# Altium integrated library Intel 1991-1992.IntLib: 71 symbols
Pins are listed as number, name and electrical type; pins without a type are passive.

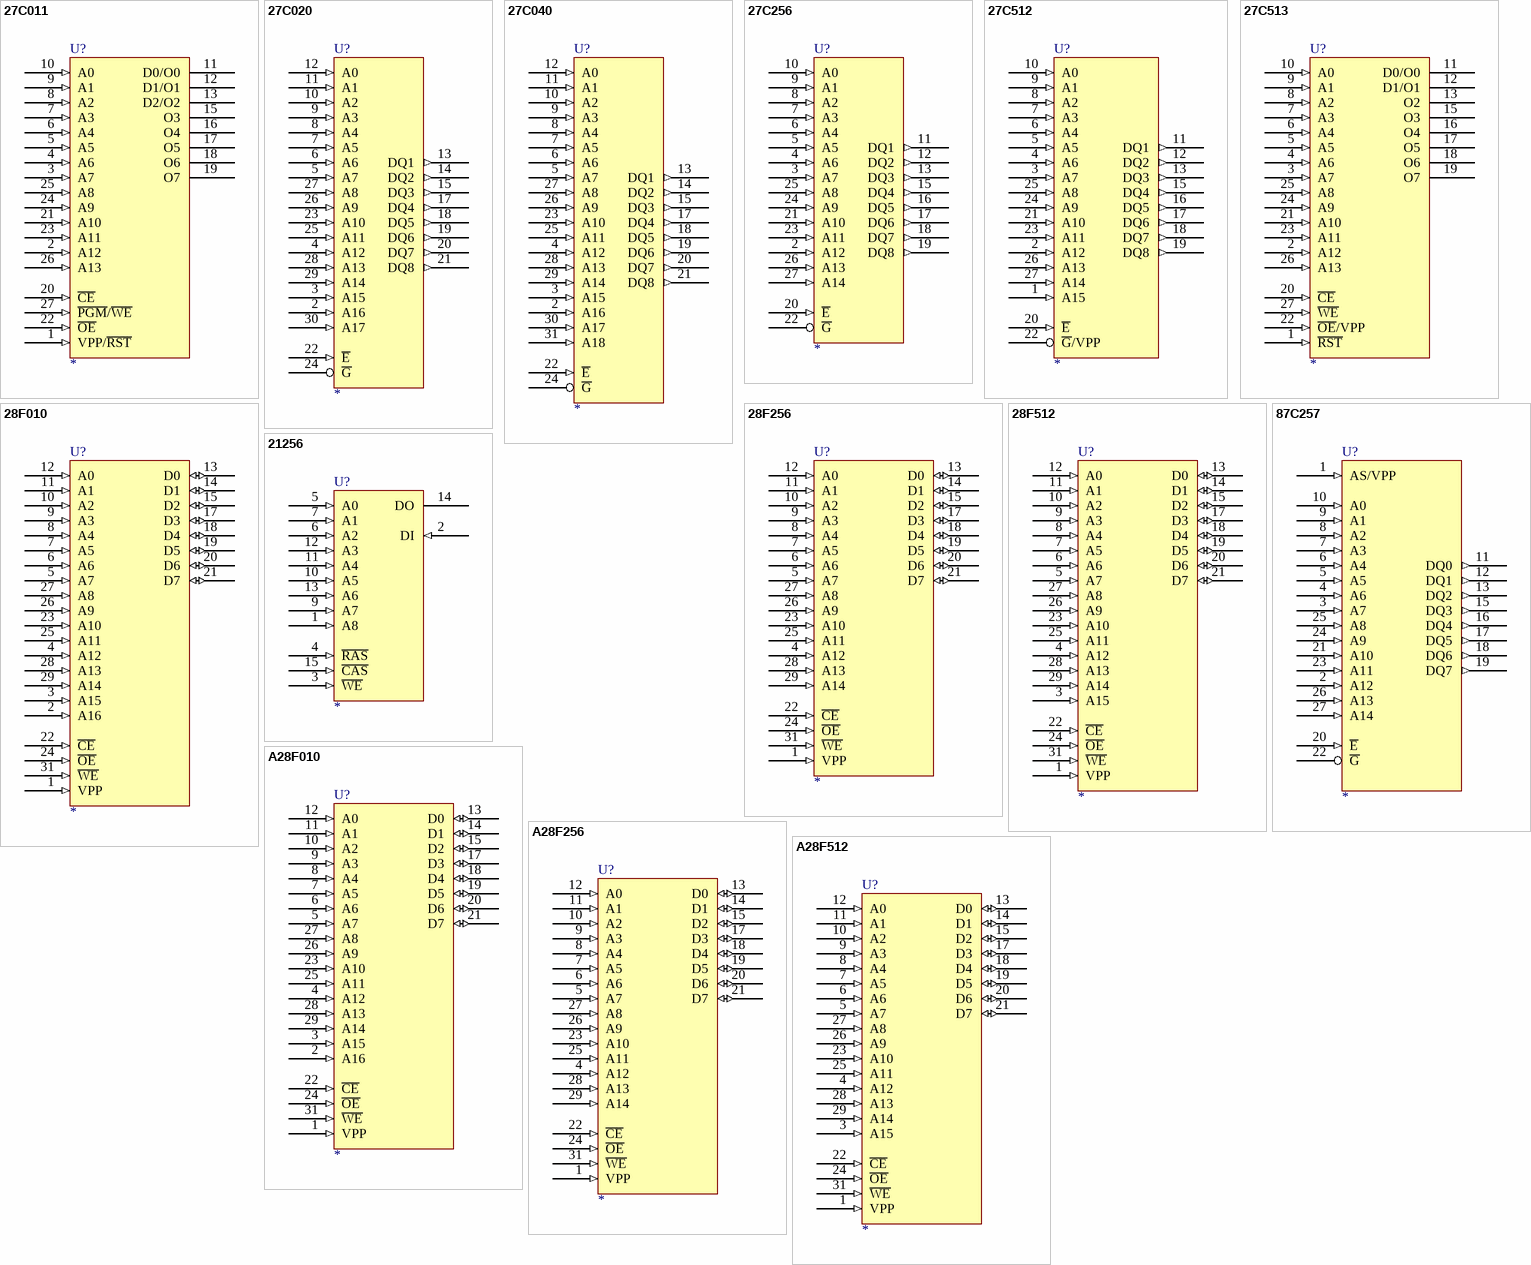
[diagram p0: symbols 27C011 to A28F512]

## 27C011
designator U?
pins: 1 VPP/~{RST} (in), 2 A12 (in), 3 A7 (in), 4 A6 (in), 5 A5 (in), 6 A4 (in), 7 A3 (in), 8 A2 (in), 9 A1 (in), 10 A0 (in), 11 D0/O0 (hiz), 12 D1/O1 (hiz), 13 D2/O2 (hiz), 14 GND (power) hidden to GND, 15 O3 (hiz), 16 O4 (hiz), 17 O5 (hiz), 18 O6 (hiz), 19 O7 (hiz), 20 ~{CE} (in), 21 A10 (in), 22 ~{OE} (in), 23 A11 (in), 24 A9 (in), 25 A8 (in), 26 A13 (in), 27 ~{PGM}/~{WE} (in), 28 VCC (power) hidden to VCC

## 27C020
designator U?
2 097 152-BIT UV ERASABLE PROGRAMMABLE READ-ONLY MEMORY
footprint DIP-32
pins: 1 VPP (power) hidden to VPP, 2 A16 (in), 3 A15 (in), 4 A12 (in), 5 A7 (in), 6 A6 (in), 7 A5 (in), 8 A4 (in), 9 A3 (in), 10 A2 (in), 11 A1 (in), 12 A0 (in), 13 DQ1 (out), 14 DQ2 (out), 15 DQ3 (out), 16 GND (power) hidden to GND, 17 DQ4 (out), 18 DQ5 (out), 19 DQ6 (out), 20 DQ7 (out), 21 DQ8 (out), 22 ~{E} (in), 23 A10 (in), 24 ~{G}, 25 A11 (in), 26 A9 (in), 27 A8 (in), 28 A13 (in), 29 A14 (in), 30 A17 (in), 32 VCC (power) hidden to VCC
1 alternate drawing of the same symbol

## 27C040
designator U?
4 194 304-BIT UV ERASABLE PROGRAMMABLE READ-ONLY MEMORY
footprint DIP-32
pins: 1 VPP (power) hidden to VPP, 2 A16 (in), 3 A15 (in), 4 A12 (in), 5 A7 (in), 6 A6 (in), 7 A5 (in), 8 A4 (in), 9 A3 (in), 10 A2 (in), 11 A1 (in), 12 A0 (in), 13 DQ1 (out), 14 DQ2 (out), 15 DQ3 (out), 16 GND (power) hidden to GND, 17 DQ4 (out), 18 DQ5 (out), 19 DQ6 (out), 20 DQ7 (out), 21 DQ8 (out), 22 ~{E} (in), 23 A10 (in), 24 ~{G}, 25 A11 (in), 26 A9 (in), 27 A8 (in), 28 A13 (in), 29 A14 (in), 30 A17 (in), 31 A18 (in), 32 VCC (power) hidden to VCC
1 alternate drawing of the same symbol

## 27C256
designator U?
262 144-BIT UV ERASABLE PROGRAMMABLE READ-ONLY MEMORY
footprint DIP-28
pins: 2 A12 (in), 3 A7 (in), 4 A6 (in), 5 A5 (in), 6 A4 (in), 7 A3 (in), 8 A2 (in), 9 A1 (in), 10 A0 (in), 11 DQ1 (out), 12 DQ2 (out), 13 DQ3 (out), 14 GND (power) hidden to GND, 15 DQ4 (out), 16 DQ5 (out), 17 DQ6 (out), 18 DQ7 (out), 19 DQ8 (out), 20 ~{E} (in), 21 A10 (in), 22 ~{G}, 23 A11 (in), 24 A9 (in), 25 A8 (in), 26 A13 (in), 27 A14 (in), 28 VCC (power) hidden to VCC
1 alternate drawing of the same symbol

## 27C512
designator U?
524 288-BIT ERASABLE UV PROGRAMMABLE READ-ONLY MEMORY
footprint DIP-28
pins: 1 A15 (in), 2 A12 (in), 3 A7 (in), 4 A6 (in), 5 A5 (in), 6 A4 (in), 7 A3 (in), 8 A2 (in), 9 A1 (in), 10 A0 (in), 11 DQ1 (out), 12 DQ2 (out), 13 DQ3 (out), 14 GND (power) hidden to GND, 15 DQ4 (out), 16 DQ5 (out), 17 DQ6 (out), 18 DQ7 (out), 19 DQ8 (out), 20 ~{E} (in), 21 A10 (in), 22 ~{G}/VPP, 23 A11 (in), 24 A9 (in), 25 A8 (in), 26 A13 (in), 27 A14 (in), 28 VCC (power) hidden to VCC
1 alternate drawing of the same symbol

## 27C513
designator U?
pins: 1 ~{RST} (in), 2 A12 (in), 3 A7 (in), 4 A6 (in), 5 A5 (in), 6 A4 (in), 7 A3 (in), 8 A2 (in), 9 A1 (in), 10 A0 (in), 11 D0/O0 (hiz), 12 D1/O1 (hiz), 13 O2 (hiz), 14 GND (power) hidden to GND, 15 O3 (hiz), 16 O4 (hiz), 17 O5 (hiz), 18 O6 (hiz), 19 O7 (hiz), 20 ~{CE} (in), 21 A10 (in), 22 ~{OE}/VPP (in), 23 A11 (in), 24 A9 (in), 25 A8 (in), 26 A13 (in), 27 ~{WE} (in), 28 VCC (power) hidden to VCC

## 28F010
designator U?
pins: 1 VPP (in), 2 A16 (in), 3 A15 (in), 4 A12 (in), 5 A7 (in), 6 A6 (in), 7 A5 (in), 8 A4 (in), 9 A3 (in), 10 A2 (in), 11 A1 (in), 12 A0 (in), 13 D0 (io), 14 D1 (io), 15 D2 (io), 16 GND (power) hidden to GND, 17 D3 (io), 18 D4 (io), 19 D5 (io), 20 D6 (io), 21 D7 (io), 22 ~{CE} (in), 23 A10 (in), 24 ~{OE} (in), 25 A11 (in), 26 A9 (in), 27 A8 (in), 28 A13 (in), 29 A14 (in), 31 ~{WE} (in), 32 VCC (power) hidden to VCC

## 28F256
designator U?
pins: 1 VPP (in), 4 A12 (in), 5 A7 (in), 6 A6 (in), 7 A5 (in), 8 A4 (in), 9 A3 (in), 10 A2 (in), 11 A1 (in), 12 A0 (in), 13 D0 (io), 14 D1 (io), 15 D2 (io), 16 VSS (power) hidden to VSS, 17 D3 (io), 18 D4 (io), 19 D5 (io), 20 D6 (io), 21 D7 (io), 22 ~{CE} (in), 23 A10 (in), 24 ~{OE} (in), 25 A11 (in), 26 A9 (in), 27 A8 (in), 28 A13 (in), 29 A14 (in), 31 ~{WE} (in), 32 VCC (power) hidden to VCC

## 28F512
designator U?
pins: 1 VPP (in), 3 A15 (in), 4 A12 (in), 5 A7 (in), 6 A6 (in), 7 A5 (in), 8 A4 (in), 9 A3 (in), 10 A2 (in), 11 A1 (in), 12 A0 (in), 13 D0 (io), 14 D1 (io), 15 D2 (io), 16 VSS (power) hidden to VSS, 17 D3 (io), 18 D4 (io), 19 D5 (io), 20 D6 (io), 21 D7 (io), 22 ~{CE} (in), 23 A10 (in), 24 ~{OE} (in), 25 A11 (in), 26 A9 (in), 27 A8 (in), 28 A13 (in), 29 A14 (in), 31 ~{WE} (in), 32 VCC (power) hidden to VCC

## 87C257
designator U?
262 144-BIT LATCHED UV ERASABLE PROGRAMMABLE READ-ONLY MEMORY
footprint DIP-28
pins: 1 AS/VPP (in), 2 A12 (in), 3 A7 (in), 4 A6 (in), 5 A5 (in), 6 A4 (in), 7 A3 (in), 8 A2 (in), 9 A1 (in), 10 A0 (in), 11 DQ0 (out), 12 DQ1 (out), 13 DQ2 (out), 14 GND (power) hidden to GND, 15 DQ3 (out), 16 DQ4 (out), 17 DQ5 (out), 18 DQ6 (out), 19 DQ7 (out), 20 ~{E} (in), 21 A10 (in), 22 ~{G}, 23 A11 (in), 24 A9 (in), 25 A8 (in), 26 A13 (in), 27 A14 (in), 28 VCC (power) hidden to VCC
1 alternate drawing of the same symbol

## 21256
designator U?
pins: 1 A8 (in), 2 DI (in), 3 ~{WE} (in), 4 ~{RAS} (in), 5 A0 (in), 6 A2 (in), 7 A1 (in), 8 VCC (power) hidden to VCC, 9 A7 (in), 10 A5 (in), 11 A4 (in), 12 A3 (in), 13 A6 (in), 14 DO (hiz), 15 ~{CAS} (in), 16 VSS (power) hidden to VSS

## A28F010
designator U?
pins: 1 VPP (in), 2 A16 (in), 3 A15 (in), 4 A12 (in), 5 A7 (in), 6 A6 (in), 7 A5 (in), 8 A4 (in), 9 A3 (in), 10 A2 (in), 11 A1 (in), 12 A0 (in), 13 D0 (io), 14 D1 (io), 15 D2 (io), 16 GND (power) hidden to GND, 17 D3 (io), 18 D4 (io), 19 D5 (io), 20 D6 (io), 21 D7 (io), 22 ~{CE} (in), 23 A10 (in), 24 ~{OE} (in), 25 A11 (in), 26 A9 (in), 27 A8 (in), 28 A13 (in), 29 A14 (in), 31 ~{WE} (in), 32 VCC (power) hidden to VCC

## A28F256
designator U?
pins: 1 VPP (in), 4 A12 (in), 5 A7 (in), 6 A6 (in), 7 A5 (in), 8 A4 (in), 9 A3 (in), 10 A2 (in), 11 A1 (in), 12 A0 (in), 13 D0 (io), 14 D1 (io), 15 D2 (io), 16 VSS (power) hidden to VSS, 17 D3 (io), 18 D4 (io), 19 D5 (io), 20 D6 (io), 21 D7 (io), 22 ~{CE} (in), 23 A10 (in), 24 ~{OE} (in), 25 A11 (in), 26 A9 (in), 27 A8 (in), 28 A13 (in), 29 A14 (in), 31 ~{WE} (in), 32 VCC (power) hidden to VCC

## A28F512
designator U?
pins: 1 VPP (in), 3 A15 (in), 4 A12 (in), 5 A7 (in), 6 A6 (in), 7 A5 (in), 8 A4 (in), 9 A3 (in), 10 A2 (in), 11 A1 (in), 12 A0 (in), 13 D0 (io), 14 D1 (io), 15 D2 (io), 16 VSS (power) hidden to VSS, 17 D3 (io), 18 D4 (io), 19 D5 (io), 20 D6 (io), 21 D7 (io), 22 ~{CE} (in), 23 A10 (in), 24 ~{OE} (in), 25 A11 (in), 26 A9 (in), 27 A8 (in), 28 A13 (in), 29 A14 (in), 31 ~{WE} (in), 32 VCC (power) hidden to VCC


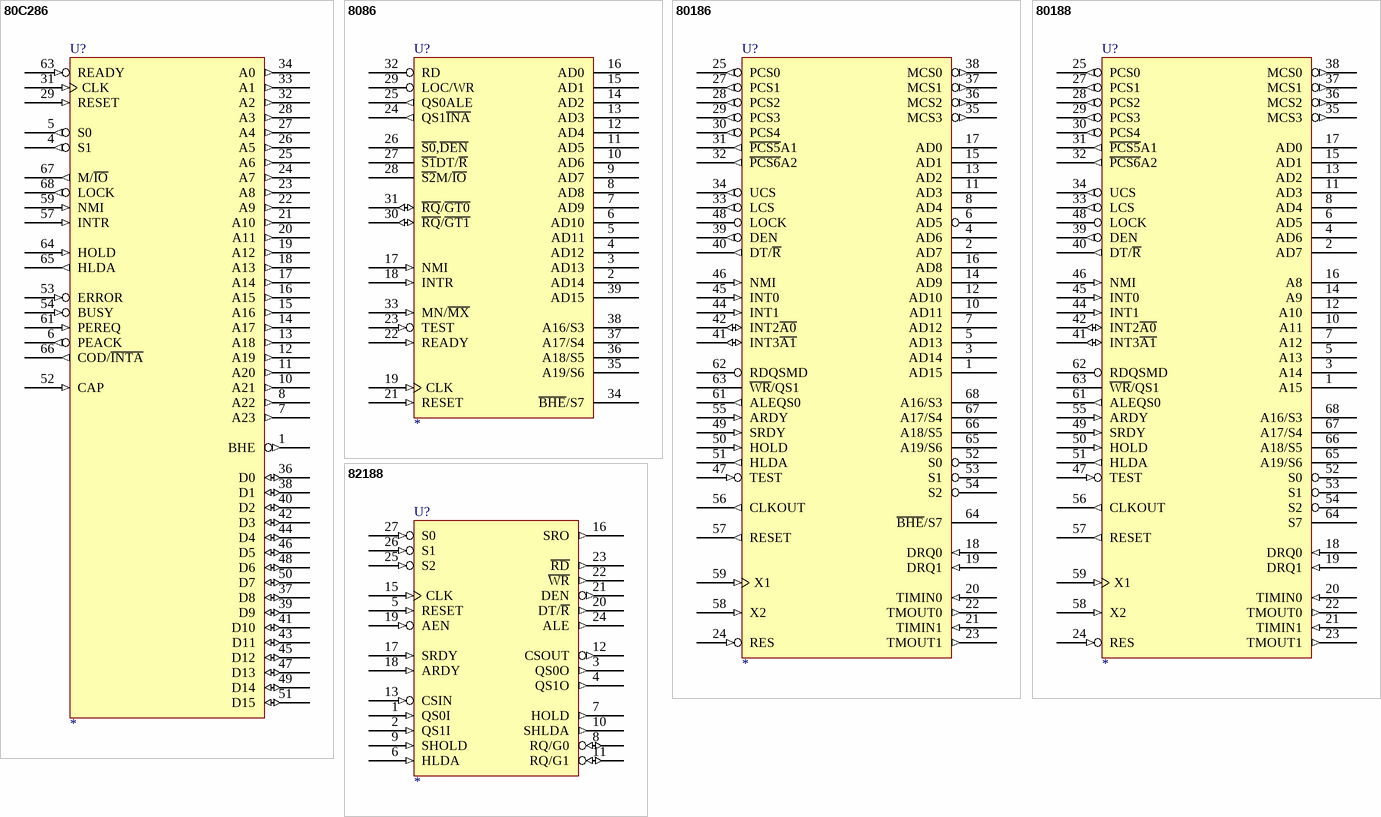
[diagram p1: symbols 80C286 to 82188]

## 80C286
designator U?
pins: 1 BHE (out), 4 S1 (out), 5 S0 (out), 6 PEACK (out), 7 A23 (out), 8 A22 (out), 9 VSS (power) hidden to VSS, 10 A21 (out), 11 A20 (out), 12 A19 (out), 13 A18 (out), 14 A17 (out), 15 A16 (out), 16 A15 (out), 17 A14 (out), 18 A13 (out), 19 A12 (out), 20 A11 (out), 21 A10 (out), 22 A9 (out), 23 A8 (out), 24 A7 (out), 25 A6 (out), 26 A5 (out), 27 A4 (out), 28 A3 (out), 29 RESET (in), 30 VCC (power) hidden to VCC, 31 CLK (in), 32 A2 (out), 33 A1 (out), 34 A0 (out), 35 VSS (power) hidden to VSS, 36 D0 (io), 37 D8 (io), 38 D1 (io), 39 D9 (io), 40 D2 (io), 41 D10 (io), 42 D3 (io), 43 D11 (io), 44 D4 (io), 45 D12 (io), 46 D5 (io), 47 D13 (io), 48 D6 (io), 49 D14 (io), 50 D7 (io), 51 D15 (io), 52 CAP (in), 53 ERROR (in), 54 BUSY (in), 57 INTR (in), 59 NMI (in), 60 VSS (power) hidden to VSS, 61 PEREQ (in), 62 VCC (power) hidden to VCC, 63 READY (in), 64 HOLD (in), 65 HLDA (out), 66 COD/~{INTA} (out), 67 M/~{IO} (out), 68 LOCK (out)

## 8086
designator U?
footprint DIP-40
pins: 1 GND (power) hidden to GND, 2 AD14 (hiz), 3 AD13 (hiz), 4 AD12 (hiz), 5 AD11 (hiz), 6 AD10 (hiz), 7 AD9 (hiz), 8 AD8 (hiz), 9 AD7 (hiz), 10 AD6 (hiz), 11 AD5 (hiz), 12 AD4 (hiz), 13 AD3 (hiz), 14 AD2 (hiz), 15 AD1 (hiz), 16 AD0 (hiz), 17 NMI (in), 18 INTR (in), 19 CLK (in), 20 GND (power) hidden to GND, 21 RESET (in), 22 READY (in), 23 TEST (in), 24 QS1~{INA} (out), 25 QS0ALE (out), 26 ~{S0},~{DEN} (hiz), 27 ~{S1}DT/~{R} (hiz), 28 ~{S2}M/~{IO} (hiz), 29 LOC/WR (hiz), 30 ~{RQ}/~{GT1} (io), 31 ~{RQ}/~{GT0} (io), 32 RD (hiz), 33 MN/~{MX} (in), 34 ~{BHE}/S7 (hiz), 35 A19/S6 (hiz), 36 A18/S5 (hiz), 37 A17/S4 (hiz), 38 A16/S3 (hiz), 39 AD15 (hiz), 40 VCC (power) hidden to VCC

## 80186
designator U?
footprint JEDECA-68
pins: 1 AD15 (hiz), 2 AD7 (hiz), 3 AD14 (hiz), 4 AD6 (hiz), 5 AD13 (hiz), 6 AD5 (hiz), 7 AD12 (hiz), 8 AD4 (hiz), 9 VCC (power) hidden to VCC, 10 AD11 (hiz), 11 AD3 (hiz), 12 AD10 (hiz), 13 AD2 (hiz), 14 AD9 (hiz), 15 AD1 (hiz), 16 AD8 (hiz), 17 AD0 (hiz), 18 DRQ0 (in), 19 DRQ1 (in), 20 TIMIN0 (in), 21 TIMIN1 (in), 22 TMOUT0 (out), 23 TMOUT1 (out), 24 RES (in), 25 PCS0 (out), 26 GND (power) hidden to GND, 27 PCS1 (out), 28 PCS2 (out), 29 PCS3 (out), 30 PCS4 (out), 31 ~{PCS5}A1 (out), 32 ~{PCS6}A2 (out), 33 LCS (out), 34 UCS (out), 35 MCS3 (out), 36 MCS2 (out), 37 MCS1 (out), 38 MCS0 (out), 39 DEN (out), 40 DT/~{R} (out), 41 INT3~{A1} (io), 42 INT2~{A0} (io), 43 VCC (power) hidden to VCC, 44 INT1 (in), 45 INT0 (in), 46 NMI (in), 47 TEST (in), 48 LOCK (hiz), 49 SRDY (in), 50 HOLD (in), 51 HLDA (out), 52 S0 (hiz), 53 S1 (hiz), 54 S2 (hiz), 55 ARDY (in), 56 CLKOUT (out), 57 RESET (out), 58 X2 (in), 59 X1 (in), 60 GND (power) hidden to GND, 61 ALEQS0 (out), 62 RDQSMD (hiz), 63 ~{WR}/QS1 (hiz), 64 ~{BHE}/S7 (hiz), 65 A19/S6 (hiz), 66 A18/S5 (hiz), 67 A17/S4 (hiz), 68 A16/S3 (hiz)

## 80188
designator U?
footprint JEDECA-68
pins: 1 A15 (hiz), 2 AD7 (hiz), 3 A14 (hiz), 4 AD6 (hiz), 5 A13 (hiz), 6 AD5 (hiz), 7 A12 (hiz), 8 AD4 (hiz), 9 VCC (power) hidden to VCC, 10 A11 (hiz), 11 AD3 (hiz), 12 A10 (hiz), 13 AD2 (hiz), 14 A9 (hiz), 15 AD1 (hiz), 16 A8 (hiz), 17 AD0 (hiz), 18 DRQ0 (in), 19 DRQ1 (in), 20 TIMIN0 (in), 21 TIMIN1 (in), 22 TMOUT0 (out), 23 TMOUT1 (out), 24 RES (in), 25 PCS0 (out), 26 GND (power) hidden to GND, 27 PCS1 (out), 28 PCS2 (out), 29 PCS3 (out), 30 PCS4 (out), 31 ~{PCS5}A1 (out), 32 ~{PCS6}A2 (out), 33 LCS (out), 34 UCS (out), 35 MCS3 (out), 36 MCS2 (out), 37 MCS1 (out), 38 MCS0 (out), 39 DEN (out), 40 DT/~{R} (out), 41 INT3~{A1} (io), 42 INT2~{A0} (io), 43 VCC (power) hidden to VCC, 44 INT1 (in), 45 INT0 (in), 46 NMI (in), 47 TEST (in), 48 LOCK (hiz), 49 SRDY (in), 50 HOLD (in), 51 HLDA (out), 52 S0 (hiz), 53 S1 (hiz), 54 S2 (hiz), 55 ARDY (in), 56 CLKOUT (out), 57 RESET (out), 58 X2 (in), 59 X1 (in), 60 GND (power) hidden to GND, 61 ALEQS0 (out), 62 RDQSMD (hiz), 63 ~{WR}/QS1 (hiz), 64 S7 (hiz), 65 A19/S6 (hiz), 66 A18/S5 (hiz), 67 A17/S4 (hiz), 68 A16/S3 (hiz)

## 82188
designator U?
pins: 1 QS0I (in), 2 QS1I (in), 3 QS0O (out), 4 QS1O (out), 5 RESET (in), 6 HLDA (in), 7 HOLD (out), 8 RQ/G0 (io), 9 SHOLD (in), 10 SHLDA (out), 11 RQ/G1 (io), 12 CSOUT (out), 13 CSIN (in), 14 VSS (power) hidden to VSS, 15 CLK (in), 16 SRO (out), 17 SRDY (in), 18 ARDY (in), 19 AEN (in), 20 DT/~{R} (out), 21 DEN (out), 22 ~{WR} (out), 23 ~{RD} (out), 24 ALE (out), 25 S2 (in), 26 S1 (in), 27 S0 (in), 28 VCC (power) hidden to VCC


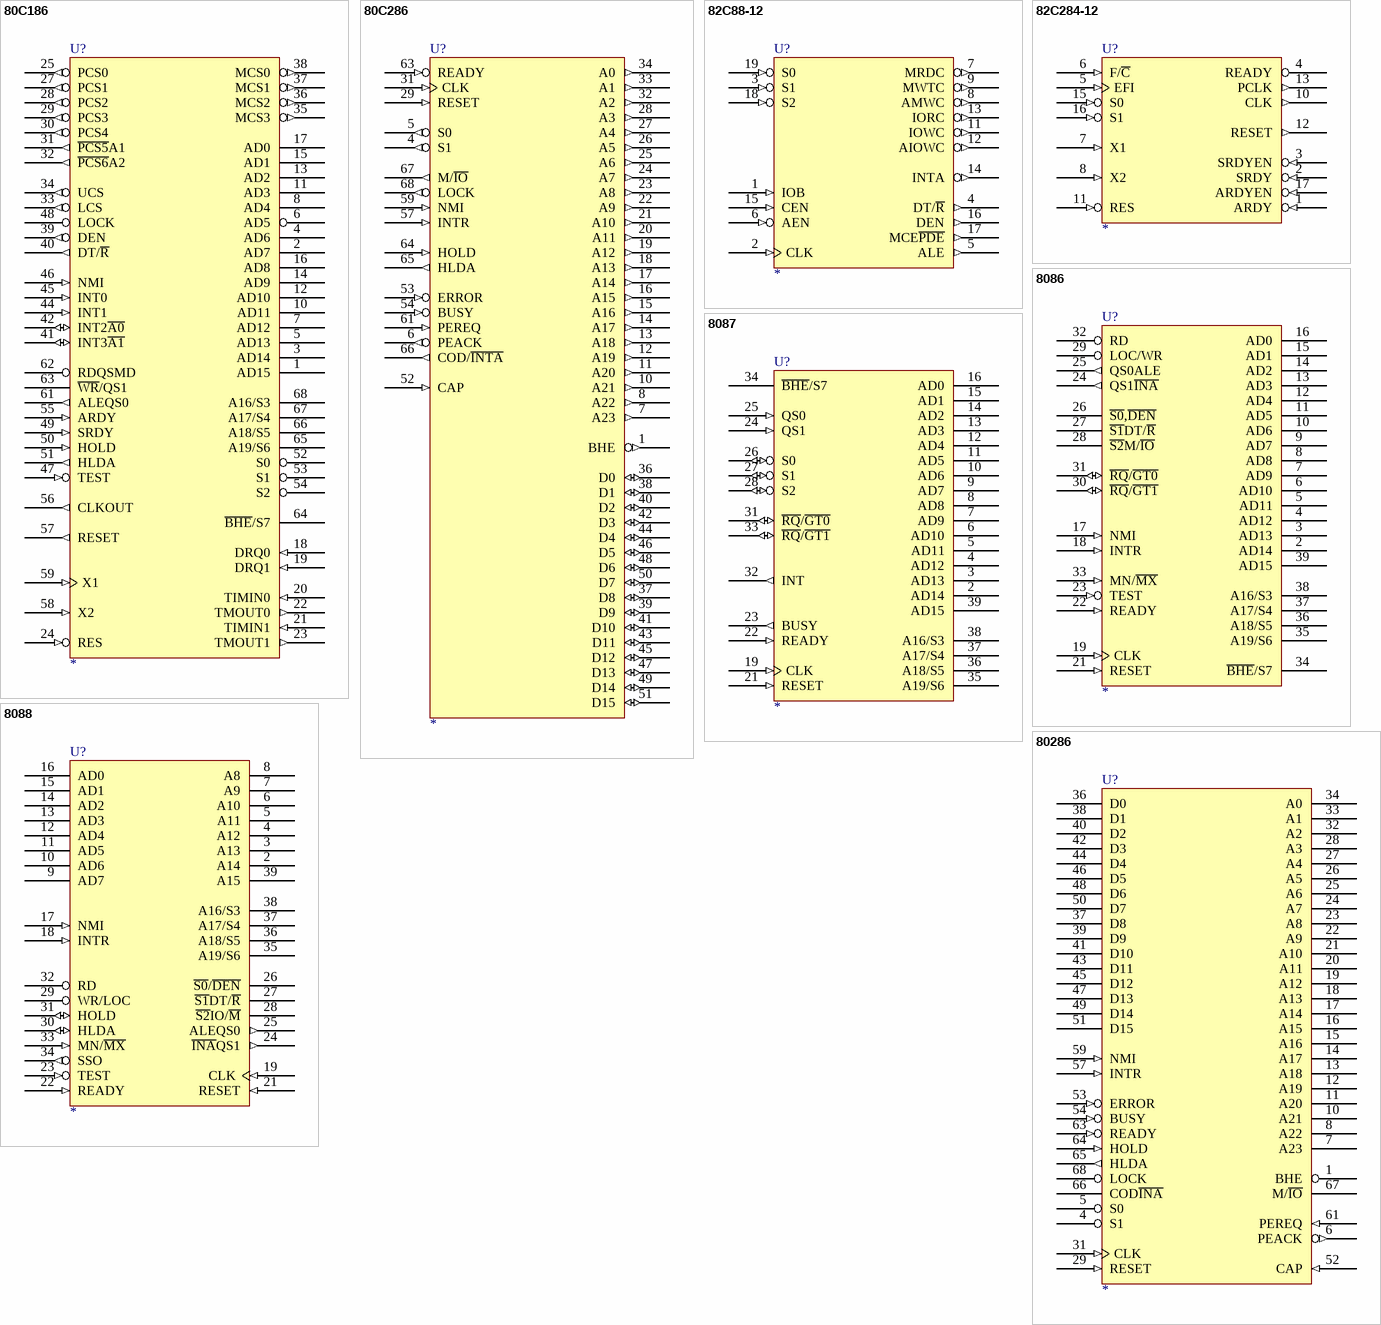
[diagram p2: symbols 80C186 to 80286]

## 80C186
designator U?
footprint JEDECA-68
pins: 1 AD15 (hiz), 2 AD7 (hiz), 3 AD14 (hiz), 4 AD6 (hiz), 5 AD13 (hiz), 6 AD5 (hiz), 7 AD12 (hiz), 8 AD4 (hiz), 9 VCC (power) hidden to VCC, 10 AD11 (hiz), 11 AD3 (hiz), 12 AD10 (hiz), 13 AD2 (hiz), 14 AD9 (hiz), 15 AD1 (hiz), 16 AD8 (hiz), 17 AD0 (hiz), 18 DRQ0 (in), 19 DRQ1 (in), 20 TIMIN0 (in), 21 TIMIN1 (in), 22 TMOUT0 (out), 23 TMOUT1 (out), 24 RES (in), 25 PCS0 (out), 26 GND (power) hidden to GND, 27 PCS1 (out), 28 PCS2 (out), 29 PCS3 (out), 30 PCS4 (out), 31 ~{PCS5}A1 (out), 32 ~{PCS6}A2 (out), 33 LCS (out), 34 UCS (out), 35 MCS3 (out), 36 MCS2 (out), 37 MCS1 (out), 38 MCS0 (out), 39 DEN (out), 40 DT/~{R} (out), 41 INT3~{A1} (io), 42 INT2~{A0} (io), 43 VCC (power) hidden to VCC, 44 INT1 (in), 45 INT0 (in), 46 NMI (in), 47 TEST (in), 48 LOCK (hiz), 49 SRDY (in), 50 HOLD (in), 51 HLDA (out), 52 S0 (hiz), 53 S1 (hiz), 54 S2 (hiz), 55 ARDY (in), 56 CLKOUT (out), 57 RESET (out), 58 X2 (in), 59 X1 (in), 60 GND (power) hidden to GND, 61 ALEQS0 (out), 62 RDQSMD (hiz), 63 ~{WR}/QS1 (hiz), 64 ~{BHE}/S7 (hiz), 65 A19/S6 (hiz), 66 A18/S5 (hiz), 67 A17/S4 (hiz), 68 A16/S3 (hiz)

## 80C286
designator U?
pins: 1 BHE (out), 4 S1 (out), 5 S0 (out), 6 PEACK (out), 7 A23 (out), 8 A22 (out), 9 VSS (power) hidden to VSS, 10 A21 (out), 11 A20 (out), 12 A19 (out), 13 A18 (out), 14 A17 (out), 15 A16 (out), 16 A15 (out), 17 A14 (out), 18 A13 (out), 19 A12 (out), 20 A11 (out), 21 A10 (out), 22 A9 (out), 23 A8 (out), 24 A7 (out), 25 A6 (out), 26 A5 (out), 27 A4 (out), 28 A3 (out), 29 RESET (in), 30 VCC (power) hidden to VCC, 31 CLK (in), 32 A2 (out), 33 A1 (out), 34 A0 (out), 35 VSS (power) hidden to VSS, 36 D0 (io), 37 D8 (io), 38 D1 (io), 39 D9 (io), 40 D2 (io), 41 D10 (io), 42 D3 (io), 43 D11 (io), 44 D4 (io), 45 D12 (io), 46 D5 (io), 47 D13 (io), 48 D6 (io), 49 D14 (io), 50 D7 (io), 51 D15 (io), 52 CAP (in), 53 ERROR (in), 54 BUSY (in), 57 INTR (in), 59 NMI (in), 60 VSS (power) hidden to VSS, 61 PEREQ (in), 62 VCC (power) hidden to VCC, 63 READY (in), 64 HOLD (in), 65 HLDA (out), 66 COD/~{INTA} (out), 67 M/~{IO} (out), 68 LOCK (out)

## 82C88-12
designator U?
footprint DIP-20
pins: 1 IOB (in), 2 CLK (in), 3 S1 (in), 4 DT/~{R} (out), 5 ALE (out), 6 AEN (in), 7 MRDC (out), 8 AMWC (out), 9 MWTC (out), 10 GND (power) hidden to GND, 11 IOWC (out), 12 AIOWC (out), 13 IORC (out), 14 INTA (out), 15 CEN (in), 16 DEN (out), 17 MCE~{PDE} (out), 18 S2 (in), 19 S0 (in), 20 VCC (power) hidden to VCC

## 82C284-12
designator U?
footprint DIP-18
pins: 1 ARDY (in), 2 SRDY (in), 3 SRDYEN (in), 4 READY (oc), 5 EFI (in), 6 F/~{C} (in), 7 X1 (in), 8 X2 (in), 9 GND (power) hidden to GND, 10 CLK (out), 11 RES (in), 12 RESET (out), 13 PCLK (out), 15 S0 (in), 16 S1 (in), 17 ARDYEN (in), 18 VCC (power) hidden to VCC

## 8086
designator U?
footprint DIP-40
pins: 1 GND (power) hidden to GND, 2 AD14 (hiz), 3 AD13 (hiz), 4 AD12 (hiz), 5 AD11 (hiz), 6 AD10 (hiz), 7 AD9 (hiz), 8 AD8 (hiz), 9 AD7 (hiz), 10 AD6 (hiz), 11 AD5 (hiz), 12 AD4 (hiz), 13 AD3 (hiz), 14 AD2 (hiz), 15 AD1 (hiz), 16 AD0 (hiz), 17 NMI (in), 18 INTR (in), 19 CLK (in), 20 GND (power) hidden to GND, 21 RESET (in), 22 READY (in), 23 TEST (in), 24 QS1~{INA} (out), 25 QS0ALE (out), 26 ~{S0},~{DEN} (hiz), 27 ~{S1}DT/~{R} (hiz), 28 ~{S2}M/~{IO} (hiz), 29 LOC/WR (hiz), 30 ~{RQ}/~{GT1} (io), 31 ~{RQ}/~{GT0} (io), 32 RD (hiz), 33 MN/~{MX} (in), 34 ~{BHE}/S7 (hiz), 35 A19/S6 (hiz), 36 A18/S5 (hiz), 37 A17/S4 (hiz), 38 A16/S3 (hiz), 39 AD15 (hiz), 40 VCC (power) hidden to VCC

## 8087
designator U?
footprint DIP-40
pins: 1 GND (power) hidden to GND, 2 AD14 (hiz), 3 AD13 (hiz), 4 AD12 (hiz), 5 AD11 (hiz), 6 AD10 (hiz), 7 AD9 (hiz), 8 AD8 (hiz), 9 AD7 (hiz), 10 AD6 (hiz), 11 AD5 (hiz), 12 AD4 (hiz), 13 AD3 (hiz), 14 AD2 (hiz), 15 AD1 (hiz), 16 AD0 (hiz), 19 CLK (in), 20 GND (power) hidden to GND, 21 RESET (in), 22 READY (in), 23 BUSY (out), 24 QS1 (in), 25 QS0 (in), 26 S0 (io), 27 S1 (io), 28 S2 (io), 31 ~{RQ}/~{GT0} (io), 32 INT (out), 33 ~{RQ}/~{GT1} (io), 34 ~{BHE}/S7 (hiz), 35 A19/S6 (hiz), 36 A18/S5 (hiz), 37 A17/S4 (hiz), 38 A16/S3 (hiz), 39 AD15 (hiz), 40 VCC (power) hidden to VCC

## 8088
designator U?
footprint DIP-40
pins: 1 GND (power) hidden to GND, 2 A14 (hiz), 3 A13 (hiz), 4 A12 (hiz), 5 A11 (hiz), 6 A10 (hiz), 7 A9 (hiz), 8 A8 (hiz), 9 AD7 (hiz), 10 AD6 (hiz), 11 AD5 (hiz), 12 AD4 (hiz), 13 AD3 (hiz), 14 AD2 (hiz), 15 AD1 (hiz), 16 AD0 (hiz), 17 NMI (in), 18 INTR (in), 19 CLK (in), 20 GND (power) hidden to GND, 21 RESET (in), 22 READY (in), 23 TEST (in), 24 ~{INA}QS1 (out), 25 ALEQS0 (out), 26 ~{S0}/~{DEN} (hiz), 27 ~{S1}DT/~{R} (hiz), 28 ~{S2}IO/~{M} (hiz), 29 WR/LOC (hiz), 30 HLDA (io), 31 HOLD (io), 32 RD (hiz), 33 MN/~{MX} (in), 34 SSO (out), 35 A19/S6 (hiz), 36 A18/S5 (hiz), 37 A17/S4 (hiz), 38 A16/S3 (hiz), 39 A15 (hiz), 40 VCC (power) hidden to VCC

## 80286
designator U?
footprint JEDECA-68
pins: 1 BHE (hiz), 4 S1 (hiz), 5 S0 (hiz), 6 PEACK (out), 7 A23 (hiz), 8 A22 (hiz), 9 GND (power) hidden to GND, 10 A21 (hiz), 11 A20 (hiz), 12 A19 (hiz), 13 A18 (hiz), 14 A17 (hiz), 15 A16 (hiz), 16 A15 (hiz), 17 A14 (hiz), 18 A13 (hiz), 19 A12 (hiz), 20 A11 (hiz), 21 A10 (hiz), 22 A9 (hiz), 23 A8 (hiz), 24 A7 (hiz), 25 A6 (hiz), 26 A5 (hiz), 27 A4 (hiz), 28 A3 (hiz), 29 RESET (in), 30 VCC (power) hidden to VCC, 31 CLK (in), 32 A2 (hiz), 33 A1 (hiz), 34 A0 (hiz), 35 GND (power) hidden to GND, 36 D0 (hiz), 37 D8 (hiz), 38 D1 (hiz), 39 D9 (hiz), 40 D2 (hiz), 41 D10 (hiz), 42 D3 (hiz), 43 D11 (hiz), 44 D4 (hiz), 45 D12 (hiz), 46 D5 (hiz), 47 D13 (hiz), 48 D6 (hiz), 49 D14 (hiz), 50 D7 (hiz), 51 D15 (hiz), 52 CAP (in), 53 ERROR (in), 54 BUSY (in), 57 INTR (in), 59 NMI (in), 60 GND (power) hidden to GND, 61 PEREQ (in), 62 VCC (power) hidden to VCC, 63 READY (in), 64 HOLD (in), 65 HLDA (out), 66 COD~{INA} (hiz), 67 M/~{IO} (hiz), 68 LOCK (hiz)


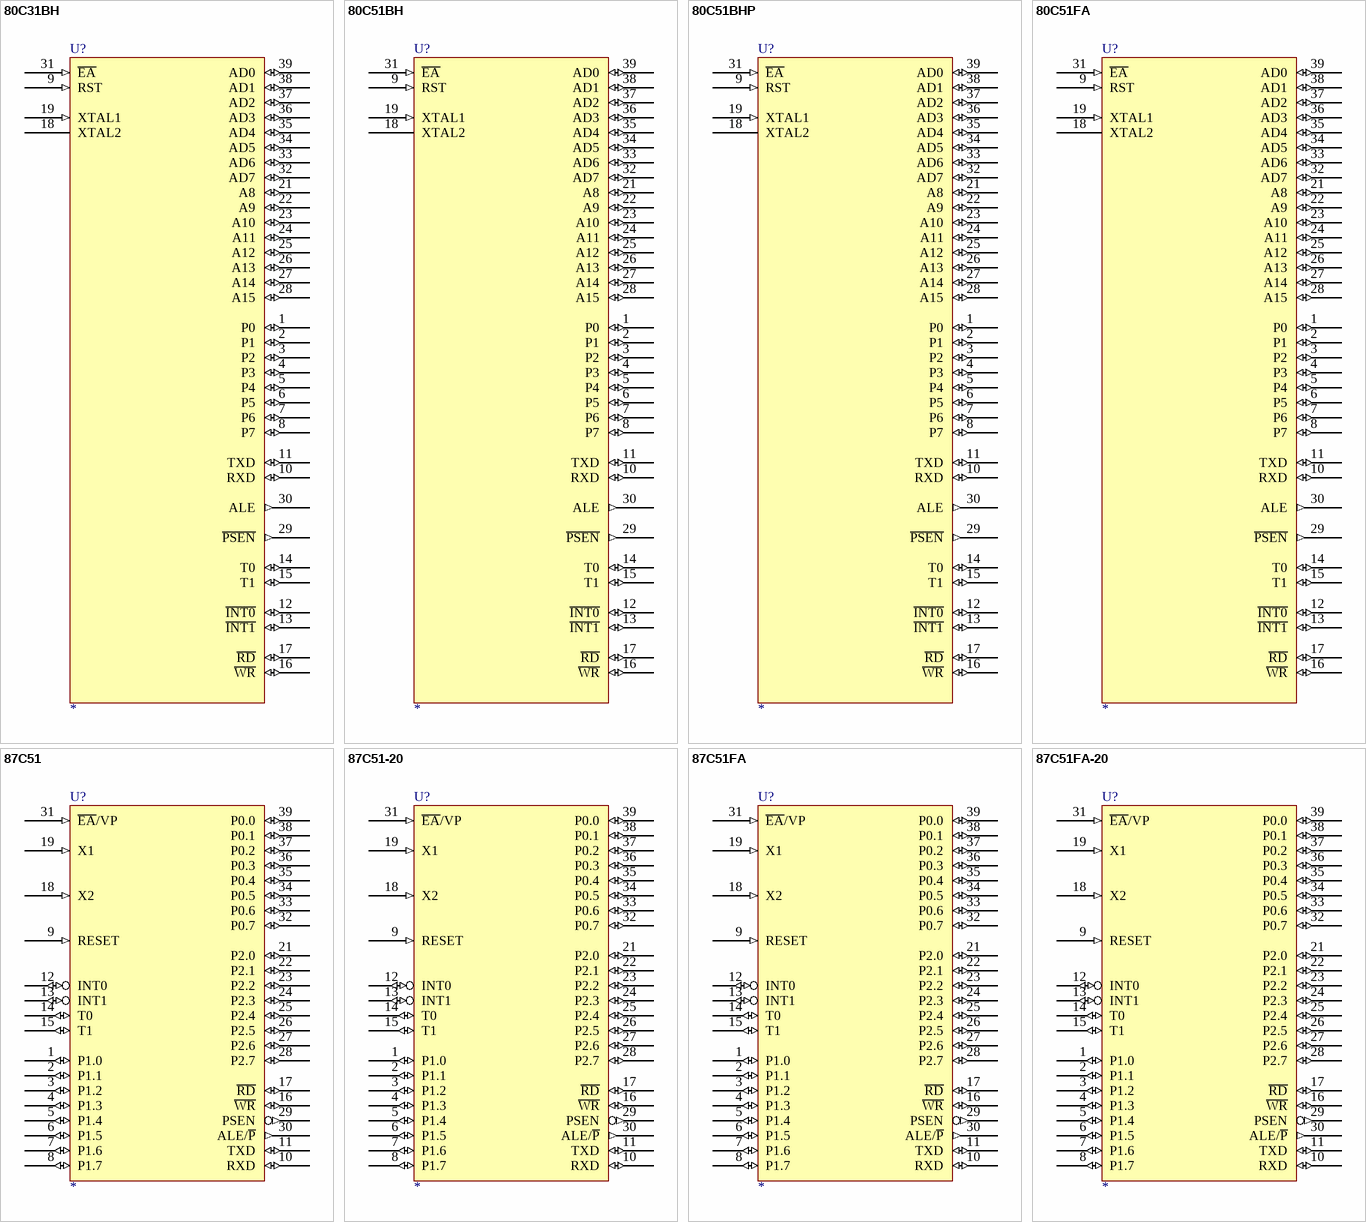
[diagram p3: symbols 80C31BH to 87C51FA-20]

## 80C31BH
designator U?
pins: 1 P0 (io), 2 P1 (io), 3 P2 (io), 4 P3 (io), 5 P4 (io), 6 P5 (io), 7 P6 (io), 8 P7 (io), 9 RST (in), 10 RXD (io), 11 TXD (io), 12 ~{INT0} (io), 13 ~{INT1} (io), 14 T0 (io), 15 T1 (io), 16 ~{WR} (io), 17 ~{RD} (io), 18 XTAL2, 19 XTAL1 (in), 20 VSS (power) hidden to VSS, 21 A8 (io), 22 A9 (io), 23 A10 (io), 24 A11 (io), 25 A12 (io), 26 A13 (io), 27 A14 (io), 28 A15 (io), 29 ~{PSEN} (out), 30 ALE (out), 31 ~{EA} (in), 32 AD7 (io), 33 AD6 (io), 34 AD5 (io), 35 AD4 (io), 36 AD3 (io), 37 AD2 (io), 38 AD1 (io), 39 AD0 (io), 40 VCC (power) hidden to VCC

## 80C51BH
designator U?
pins: 1 P0 (io), 2 P1 (io), 3 P2 (io), 4 P3 (io), 5 P4 (io), 6 P5 (io), 7 P6 (io), 8 P7 (io), 9 RST (in), 10 RXD (io), 11 TXD (io), 12 ~{INT0} (io), 13 ~{INT1} (io), 14 T0 (io), 15 T1 (io), 16 ~{WR} (io), 17 ~{RD} (io), 18 XTAL2, 19 XTAL1 (in), 20 VSS (power) hidden to VSS, 21 A8 (io), 22 A9 (io), 23 A10 (io), 24 A11 (io), 25 A12 (io), 26 A13 (io), 27 A14 (io), 28 A15 (io), 29 ~{PSEN} (out), 30 ALE (out), 31 ~{EA} (in), 32 AD7 (io), 33 AD6 (io), 34 AD5 (io), 35 AD4 (io), 36 AD3 (io), 37 AD2 (io), 38 AD1 (io), 39 AD0 (io), 40 VCC (power) hidden to VCC

## 80C51BHP
designator U?
pins: 1 P0 (io), 2 P1 (io), 3 P2 (io), 4 P3 (io), 5 P4 (io), 6 P5 (io), 7 P6 (io), 8 P7 (io), 9 RST (in), 10 RXD (io), 11 TXD (io), 12 ~{INT0} (io), 13 ~{INT1} (io), 14 T0 (io), 15 T1 (io), 16 ~{WR} (io), 17 ~{RD} (io), 18 XTAL2, 19 XTAL1 (in), 20 VSS (power) hidden to VSS, 21 A8 (io), 22 A9 (io), 23 A10 (io), 24 A11 (io), 25 A12 (io), 26 A13 (io), 27 A14 (io), 28 A15 (io), 29 ~{PSEN} (out), 30 ALE (out), 31 ~{EA} (in), 32 AD7 (io), 33 AD6 (io), 34 AD5 (io), 35 AD4 (io), 36 AD3 (io), 37 AD2 (io), 38 AD1 (io), 39 AD0 (io), 40 VCC (power) hidden to VCC

## 80C51FA
designator U?
pins: 1 P0 (io), 2 P1 (io), 3 P2 (io), 4 P3 (io), 5 P4 (io), 6 P5 (io), 7 P6 (io), 8 P7 (io), 9 RST (in), 10 RXD (io), 11 TXD (io), 12 ~{INT0} (io), 13 ~{INT1} (io), 14 T0 (io), 15 T1 (io), 16 ~{WR} (io), 17 ~{RD} (io), 18 XTAL2, 19 XTAL1 (in), 20 VSS (power) hidden to VSS, 21 A8 (io), 22 A9 (io), 23 A10 (io), 24 A11 (io), 25 A12 (io), 26 A13 (io), 27 A14 (io), 28 A15 (io), 29 ~{PSEN} (out), 30 ALE (out), 31 ~{EA} (in), 32 AD7 (io), 33 AD6 (io), 34 AD5 (io), 35 AD4 (io), 36 AD3 (io), 37 AD2 (io), 38 AD1 (io), 39 AD0 (io), 40 VCC (power) hidden to VCC

## 87C51
designator U?
pins: 1 P1.0 (io), 2 P1.1 (io), 3 P1.2 (io), 4 P1.3 (io), 5 P1.4 (io), 6 P1.5 (io), 7 P1.6 (io), 8 P1.7 (io), 9 RESET (in), 10 RXD (io), 11 TXD (io), 12 INT0 (io), 13 INT1 (io), 14 T0 (io), 15 T1 (io), 16 ~{WR} (io), 17 ~{RD} (io), 18 X2 (in), 19 X1 (in), 20 VSS (power) hidden to VSS, 21 P2.0 (io), 22 P2.1 (io), 23 P2.2 (io), 24 P2.3 (io), 25 P2.4 (io), 26 P2.5 (io), 27 P2.6 (io), 28 P2.7 (io), 29 PSEN (out), 30 ALE/~{P} (out), 31 ~{EA}/VP (in), 32 P0.7 (io), 33 P0.6 (io), 34 P0.5 (io), 35 P0.4 (io), 36 P0.3 (io), 37 P0.2 (io), 38 P0.1 (io), 39 P0.0 (io), 40 VCC (power) hidden to VCC

## 87C51-20
designator U?
pins: 1 P1.0 (io), 2 P1.1 (io), 3 P1.2 (io), 4 P1.3 (io), 5 P1.4 (io), 6 P1.5 (io), 7 P1.6 (io), 8 P1.7 (io), 9 RESET (in), 10 RXD (io), 11 TXD (io), 12 INT0 (io), 13 INT1 (io), 14 T0 (io), 15 T1 (io), 16 ~{WR} (io), 17 ~{RD} (io), 18 X2 (in), 19 X1 (in), 20 VSS (power) hidden to VSS, 21 P2.0 (io), 22 P2.1 (io), 23 P2.2 (io), 24 P2.3 (io), 25 P2.4 (io), 26 P2.5 (io), 27 P2.6 (io), 28 P2.7 (io), 29 PSEN (out), 30 ALE/~{P} (out), 31 ~{EA}/VP (in), 32 P0.7 (io), 33 P0.6 (io), 34 P0.5 (io), 35 P0.4 (io), 36 P0.3 (io), 37 P0.2 (io), 38 P0.1 (io), 39 P0.0 (io), 40 VCC (power) hidden to VCC

## 87C51FA
designator U?
pins: 1 P1.0 (io), 2 P1.1 (io), 3 P1.2 (io), 4 P1.3 (io), 5 P1.4 (io), 6 P1.5 (io), 7 P1.6 (io), 8 P1.7 (io), 9 RESET (in), 10 RXD (io), 11 TXD (io), 12 INT0 (io), 13 INT1 (io), 14 T0 (io), 15 T1 (io), 16 ~{WR} (io), 17 ~{RD} (io), 18 X2 (in), 19 X1 (in), 20 VSS (power) hidden to VSS, 21 P2.0 (io), 22 P2.1 (io), 23 P2.2 (io), 24 P2.3 (io), 25 P2.4 (io), 26 P2.5 (io), 27 P2.6 (io), 28 P2.7 (io), 29 PSEN (out), 30 ALE/~{P} (out), 31 ~{EA}/VP (in), 32 P0.7 (io), 33 P0.6 (io), 34 P0.5 (io), 35 P0.4 (io), 36 P0.3 (io), 37 P0.2 (io), 38 P0.1 (io), 39 P0.0 (io), 40 VCC (power) hidden to VCC

## 87C51FA-20
designator U?
pins: 1 P1.0 (io), 2 P1.1 (io), 3 P1.2 (io), 4 P1.3 (io), 5 P1.4 (io), 6 P1.5 (io), 7 P1.6 (io), 8 P1.7 (io), 9 RESET (in), 10 RXD (io), 11 TXD (io), 12 INT0 (io), 13 INT1 (io), 14 T0 (io), 15 T1 (io), 16 ~{WR} (io), 17 ~{RD} (io), 18 X2 (in), 19 X1 (in), 20 VSS (power) hidden to VSS, 21 P2.0 (io), 22 P2.1 (io), 23 P2.2 (io), 24 P2.3 (io), 25 P2.4 (io), 26 P2.5 (io), 27 P2.6 (io), 28 P2.7 (io), 29 PSEN (out), 30 ALE/~{P} (out), 31 ~{EA}/VP (in), 32 P0.7 (io), 33 P0.6 (io), 34 P0.5 (io), 35 P0.4 (io), 36 P0.3 (io), 37 P0.2 (io), 38 P0.1 (io), 39 P0.0 (io), 40 VCC (power) hidden to VCC

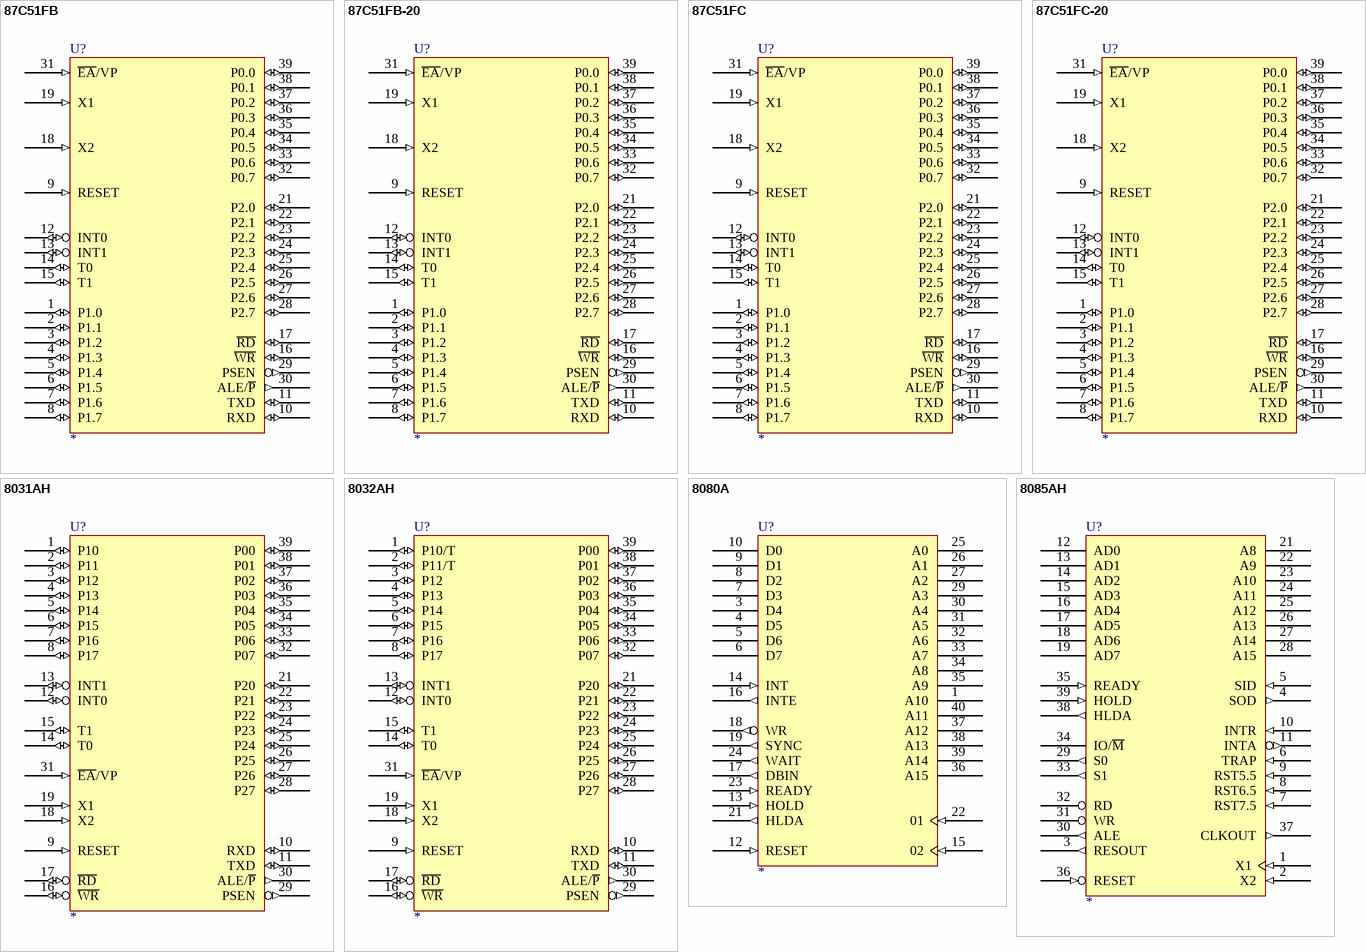
[diagram p4: symbols 87C51FB to 8085AH]

## 87C51FB
designator U?
pins: 1 P1.0 (io), 2 P1.1 (io), 3 P1.2 (io), 4 P1.3 (io), 5 P1.4 (io), 6 P1.5 (io), 7 P1.6 (io), 8 P1.7 (io), 9 RESET (in), 10 RXD (io), 11 TXD (io), 12 INT0 (io), 13 INT1 (io), 14 T0 (io), 15 T1 (io), 16 ~{WR} (io), 17 ~{RD} (io), 18 X2 (in), 19 X1 (in), 20 VSS (power) hidden to VSS, 21 P2.0 (io), 22 P2.1 (io), 23 P2.2 (io), 24 P2.3 (io), 25 P2.4 (io), 26 P2.5 (io), 27 P2.6 (io), 28 P2.7 (io), 29 PSEN (out), 30 ALE/~{P} (out), 31 ~{EA}/VP (in), 32 P0.7 (io), 33 P0.6 (io), 34 P0.5 (io), 35 P0.4 (io), 36 P0.3 (io), 37 P0.2 (io), 38 P0.1 (io), 39 P0.0 (io), 40 VCC (power) hidden to VCC

## 87C51FB-20
designator U?
pins: 1 P1.0 (io), 2 P1.1 (io), 3 P1.2 (io), 4 P1.3 (io), 5 P1.4 (io), 6 P1.5 (io), 7 P1.6 (io), 8 P1.7 (io), 9 RESET (in), 10 RXD (io), 11 TXD (io), 12 INT0 (io), 13 INT1 (io), 14 T0 (io), 15 T1 (io), 16 ~{WR} (io), 17 ~{RD} (io), 18 X2 (in), 19 X1 (in), 20 VSS (power) hidden to VSS, 21 P2.0 (io), 22 P2.1 (io), 23 P2.2 (io), 24 P2.3 (io), 25 P2.4 (io), 26 P2.5 (io), 27 P2.6 (io), 28 P2.7 (io), 29 PSEN (out), 30 ALE/~{P} (out), 31 ~{EA}/VP (in), 32 P0.7 (io), 33 P0.6 (io), 34 P0.5 (io), 35 P0.4 (io), 36 P0.3 (io), 37 P0.2 (io), 38 P0.1 (io), 39 P0.0 (io), 40 VCC (power) hidden to VCC

## 87C51FC
designator U?
pins: 1 P1.0 (io), 2 P1.1 (io), 3 P1.2 (io), 4 P1.3 (io), 5 P1.4 (io), 6 P1.5 (io), 7 P1.6 (io), 8 P1.7 (io), 9 RESET (in), 10 RXD (io), 11 TXD (io), 12 INT0 (io), 13 INT1 (io), 14 T0 (io), 15 T1 (io), 16 ~{WR} (io), 17 ~{RD} (io), 18 X2 (in), 19 X1 (in), 20 VSS (power) hidden to VSS, 21 P2.0 (io), 22 P2.1 (io), 23 P2.2 (io), 24 P2.3 (io), 25 P2.4 (io), 26 P2.5 (io), 27 P2.6 (io), 28 P2.7 (io), 29 PSEN (out), 30 ALE/~{P} (out), 31 ~{EA}/VP (in), 32 P0.7 (io), 33 P0.6 (io), 34 P0.5 (io), 35 P0.4 (io), 36 P0.3 (io), 37 P0.2 (io), 38 P0.1 (io), 39 P0.0 (io), 40 VCC (power) hidden to VCC

## 87C51FC-20
designator U?
pins: 1 P1.0 (io), 2 P1.1 (io), 3 P1.2 (io), 4 P1.3 (io), 5 P1.4 (io), 6 P1.5 (io), 7 P1.6 (io), 8 P1.7 (io), 9 RESET (in), 10 RXD (io), 11 TXD (io), 12 INT0 (io), 13 INT1 (io), 14 T0 (io), 15 T1 (io), 16 ~{WR} (io), 17 ~{RD} (io), 18 X2 (in), 19 X1 (in), 20 VSS (power) hidden to VSS, 21 P2.0 (io), 22 P2.1 (io), 23 P2.2 (io), 24 P2.3 (io), 25 P2.4 (io), 26 P2.5 (io), 27 P2.6 (io), 28 P2.7 (io), 29 PSEN (out), 30 ALE/~{P} (out), 31 ~{EA}/VP (in), 32 P0.7 (io), 33 P0.6 (io), 34 P0.5 (io), 35 P0.4 (io), 36 P0.3 (io), 37 P0.2 (io), 38 P0.1 (io), 39 P0.0 (io), 40 VCC (power) hidden to VCC

## 8031AH
designator U?
footprint DIP-40
pins: 1 P10 (io), 2 P11 (io), 3 P12 (io), 4 P13 (io), 5 P14 (io), 6 P15 (io), 7 P16 (io), 8 P17 (io), 9 RESET (in), 10 RXD (io), 11 TXD (io), 12 INT0 (io), 13 INT1 (io), 14 T0 (io), 15 T1 (io), 16 ~{WR} (io), 17 ~{RD} (io), 18 X2 (in), 19 X1 (in), 20 GND (power) hidden to GND, 21 P20 (io), 22 P21 (io), 23 P22 (io), 24 P23 (io), 25 P24 (io), 26 P25 (io), 27 P26 (io), 28 P27 (io), 29 PSEN (out), 30 ALE/~{P} (out), 31 ~{EA}/VP (in), 32 P07 (io), 33 P06 (io), 34 P05 (io), 35 P04 (io), 36 P03 (io), 37 P02 (io), 38 P01 (io), 39 P00 (io), 40 VCC (power) hidden to VCC

## 8032AH
designator U?
footprint DIP-40
pins: 1 P10/T (io), 2 P11/T (io), 3 P12 (io), 4 P13 (io), 5 P14 (io), 6 P15 (io), 7 P16 (io), 8 P17 (io), 9 RESET (in), 10 RXD (io), 11 TXD (io), 12 INT0 (io), 13 INT1 (io), 14 T0 (io), 15 T1 (io), 16 ~{WR} (io), 17 ~{RD} (io), 18 X2 (in), 19 X1 (in), 20 GND (power) hidden to GND, 21 P20 (io), 22 P21 (io), 23 P22 (io), 24 P23 (io), 25 P24 (io), 26 P25 (io), 27 P26 (io), 28 P27 (io), 29 PSEN (out), 30 ALE/~{P} (out), 31 ~{EA}/VP (in), 32 P07 (io), 33 P06 (io), 34 P05 (io), 35 P04 (io), 36 P03 (io), 37 P02 (io), 38 P01 (io), 39 P00 (io), 40 VCC (power) hidden to VCC

## 8080A
designator U?
footprint DIP-40
pins: 1 A10 (hiz), 2 GND (power) hidden to GND, 3 D4 (hiz), 4 D5 (hiz), 5 D6 (hiz), 6 D7 (hiz), 7 D3 (hiz), 8 D2 (hiz), 9 D1 (hiz), 10 D0 (hiz), 11 -5 (power) hidden to -5, 12 RESET (in), 13 HOLD (in), 14 INT (in), 15 02 (in), 16 INTE (out), 17 DBIN (out), 18 WR (out), 19 SYNC (out), 20 VCC (power) hidden to VCC, 21 HLDA (out), 22 01 (in), 23 READY (in), 24 WAIT (out), 25 A0 (hiz), 26 A1 (hiz), 27 A2 (hiz), 28 +12 (power) hidden to +12, 29 A3 (hiz), 30 A4 (hiz), 31 A5 (hiz), 32 A6 (hiz), 33 A7 (hiz), 34 A8 (hiz), 35 A9 (hiz), 36 A15 (hiz), 37 A12 (hiz), 38 A13 (hiz), 39 A14 (hiz), 40 A11 (hiz)

## 8085AH
designator U?
footprint DIP-40
pins: 1 X1 (in), 2 X2 (in), 3 RESOUT (out), 4 SOD (out), 5 SID (in), 6 TRAP (in), 7 RST7.5 (in), 8 RST6.5 (in), 9 RST5.5 (in), 10 INTR (in), 11 INTA (out), 12 AD0 (hiz), 13 AD1 (hiz), 14 AD2 (hiz), 15 AD3 (hiz), 16 AD4 (hiz), 17 AD5 (hiz), 18 AD6 (hiz), 19 AD7 (hiz), 20 GND (power) hidden to GND, 21 A8 (hiz), 22 A9 (hiz), 23 A10 (hiz), 24 A11 (hiz), 25 A12 (hiz), 26 A13 (hiz), 27 A14 (hiz), 28 A15 (hiz), 29 S0 (out), 30 ALE (out), 31 WR (hiz), 32 RD (hiz), 33 S1 (out), 34 IO/~{M} (hiz), 35 READY (in), 36 RESET (in), 37 CLKOUT (out), 38 HLDA (out), 39 HOLD (in), 40 VCC (power) hidden to VCC

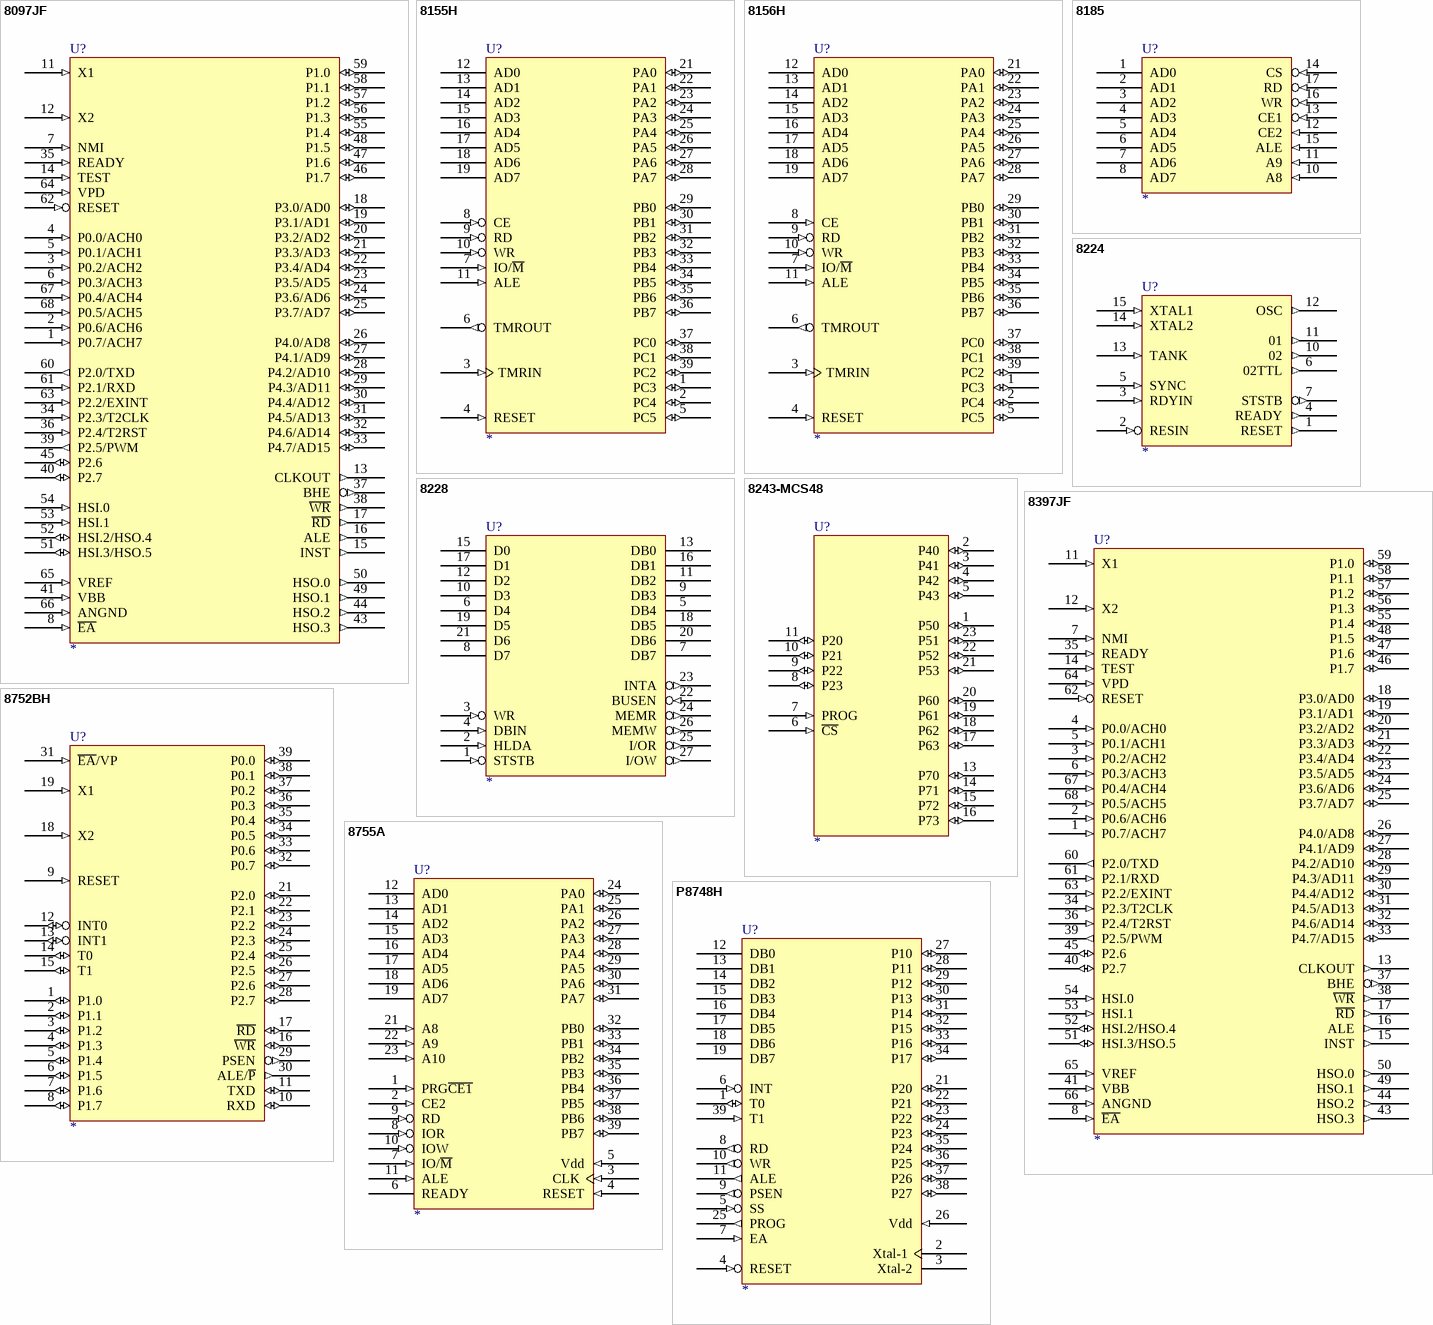
[diagram p5: symbols 8097JF to P8748H]

## 8097JF
designator U?
pins: 1 P0.7/ACH7 (in), 2 P0.6/ACH6 (in), 3 P0.2/ACH2 (in), 4 P0.0/ACH0 (in), 5 P0.1/ACH1 (in), 6 P0.3/ACH3 (in), 7 NMI (in), 8 ~{EA} (in), 9 VCC (power) hidden to VCC, 10 VSS (power) hidden to VSS, 11 X1 (in), 12 X2 (in), 13 CLKOUT (out), 14 TEST (in), 15 INST (out), 16 ALE (out), 17 ~{RD} (out), 18 P3.0/AD0 (io), 19 P3.1/AD1 (io), 20 P3.2/AD2 (io), 21 P3.3/AD3 (io), 22 P3.4/AD4 (io), 23 P3.5/AD5 (io), 24 P3.6/AD6 (io), 25 P3.7/AD7 (io), 26 P4.0/AD8 (io), 27 P4.1/AD9 (io), 28 P4.2/AD10 (io), 29 P4.3/AD11 (io), 30 P4.4/AD12 (io), 31 P4.5/AD13 (io), 32 P4.6/AD14 (io), 33 P4.7/AD15 (io), 34 P2.3/T2CLK (in), 35 READY (in), 36 P2.4/T2RST (in), 37 BHE (out), 38 ~{WR} (out), 39 P2.5/PWM (out), 40 P2.7 (io), 41 VBB (in), 42 VSS (power) hidden to VSS, 43 HSO.3 (out), 44 HSO.2 (out), 45 P2.6 (io), 46 P1.7 (io), 47 P1.6 (io), 48 P1.5 (io), 49 HSO.1 (out), 50 HSO.0 (out), 51 HSI.3/HSO.5 (io), 52 HSI.2/HSO.4 (io), 53 HSI.1 (in), 54 HSI.0 (in), 55 P1.4 (io), 56 P1.3 (io), 57 P1.2 (io), 58 P1.1 (io), 59 P1.0 (io), 60 P2.0/TXD (out), 61 P2.1/RXD (in), 62 RESET (in), 63 P2.2/EXINT (in), 64 VPD (in), 65 VREF (in), 66 ANGND (in), 67 P0.4/ACH4 (in), 68 P0.5/ACH5 (in)

## 8155H
designator U?
footprint DIP-40
pins: 1 PC3 (io), 2 PC4 (io), 3 TMRIN (in), 4 RESET (in), 5 PC5 (io), 6 TMROUT (out), 7 IO/~{M} (in), 8 CE (in), 9 RD (in), 10 WR (in), 11 ALE (in), 12 AD0 (hiz), 13 AD1 (hiz), 14 AD2 (hiz), 15 AD3 (hiz), 16 AD4 (hiz), 17 AD5 (hiz), 18 AD6 (hiz), 19 AD7 (hiz), 20 GND (power) hidden to GND, 21 PA0 (io), 22 PA1 (io), 23 PA2 (io), 24 PA3 (io), 25 PA4 (io), 26 PA5 (io), 27 PA6 (io), 28 PA7 (io), 29 PB0 (io), 30 PB1 (io), 31 PB2 (io), 32 PB3 (io), 33 PB4 (io), 34 PB5 (io), 35 PB6 (io), 36 PB7 (io), 37 PC0 (io), 38 PC1 (io), 39 PC2 (io), 40 VCC (power) hidden to VCC

## 8156H
designator U?
footprint DIP-40
pins: 1 PC3 (io), 2 PC4 (io), 3 TMRIN (in), 4 RESET (in), 5 PC5 (io), 6 TMROUT (out), 7 IO/~{M} (in), 8 CE (in), 9 RD (in), 10 WR (in), 11 ALE (in), 12 AD0 (hiz), 13 AD1 (hiz), 14 AD2 (hiz), 15 AD3 (hiz), 16 AD4 (hiz), 17 AD5 (hiz), 18 AD6 (hiz), 19 AD7 (hiz), 20 GND (power) hidden to GND, 21 PA0 (io), 22 PA1 (io), 23 PA2 (io), 24 PA3 (io), 25 PA4 (io), 26 PA5 (io), 27 PA6 (io), 28 PA7 (io), 29 PB0 (io), 30 PB1 (io), 31 PB2 (io), 32 PB3 (io), 33 PB4 (io), 34 PB5 (io), 35 PB6 (io), 36 PB7 (io), 37 PC0 (io), 38 PC1 (io), 39 PC2 (io), 40 VCC (power) hidden to VCC

## 8185
designator U?
footprint DIP-18
pins: 1 AD0 (hiz), 2 AD1 (hiz), 3 AD2 (hiz), 4 AD3 (hiz), 5 AD4 (hiz), 6 AD5 (hiz), 7 AD6 (hiz), 8 AD7 (hiz), 9 GND (power) hidden to GND, 10 A8 (in), 11 A9 (in), 12 CE2 (in), 13 CE1 (in), 14 CS (in), 15 ALE (in), 16 WR (in), 17 RD (in), 18 VCC (power) hidden to VCC

## 8224
designator U?
footprint DIP-16
pins: 1 RESET (out), 2 RESIN (in), 3 RDYIN (in), 4 READY (out), 5 SYNC (in), 6 02TTL (out), 7 STSTB (out), 8 GND (power) hidden to GND, 9 VDD (power) hidden to VDD, 10 02 (out), 11 01 (out), 12 OSC (out), 13 TANK (in), 14 XTAL2 (in), 15 XTAL1 (in), 16 VCC (power) hidden to VCC

## 8228
designator U?
footprint DIP-28
pins: 1 STSTB (in), 2 HLDA (in), 3 WR (in), 4 DBIN (in), 5 DB4 (hiz), 6 D4 (hiz), 7 DB7 (hiz), 8 D7 (hiz), 9 DB3 (hiz), 10 D3 (hiz), 11 DB2 (hiz), 12 D2 (hiz), 13 DB0 (hiz), 14 GND (power) hidden to GND, 15 D0 (hiz), 16 DB1 (hiz), 17 D1 (hiz), 18 DB5 (hiz), 19 D5 (hiz), 20 DB6 (hiz), 21 D6 (hiz), 22 BUSEN (in), 23 INTA (out), 24 MEMR (out), 25 I/OR (out), 26 MEMW (out), 27 I/OW (out), 28 VCC (power) hidden to VCC

## 8243-MCS48
designator U?
pins: 1 P50 (io), 2 P40 (io), 3 P41 (io), 4 P42 (io), 5 P43 (io), 6 ~{CS} (in), 7 PROG (in), 8 P23 (io), 9 P22 (io), 10 P21 (io), 11 P20 (io), 12 GND (power) hidden to GND, 13 P70 (io), 14 P71 (io), 15 P72 (io), 16 P73 (io), 17 P63 (io), 18 P62 (io), 19 P61 (io), 20 P60 (io), 21 P53 (io), 22 P52 (io), 23 P51 (io), 24 VCC (power) hidden to VCC

## 8397JF
designator U?
pins: 1 P0.7/ACH7 (in), 2 P0.6/ACH6 (in), 3 P0.2/ACH2 (in), 4 P0.0/ACH0 (in), 5 P0.1/ACH1 (in), 6 P0.3/ACH3 (in), 7 NMI (in), 8 ~{EA} (in), 9 VCC (power) hidden to VCC, 10 VSS (power) hidden to VSS, 11 X1 (in), 12 X2 (in), 13 CLKOUT (out), 14 TEST (in), 15 INST (out), 16 ALE (out), 17 ~{RD} (out), 18 P3.0/AD0 (io), 19 P3.1/AD1 (io), 20 P3.2/AD2 (io), 21 P3.3/AD3 (io), 22 P3.4/AD4 (io), 23 P3.5/AD5 (io), 24 P3.6/AD6 (io), 25 P3.7/AD7 (io), 26 P4.0/AD8 (io), 27 P4.1/AD9 (io), 28 P4.2/AD10 (io), 29 P4.3/AD11 (io), 30 P4.4/AD12 (io), 31 P4.5/AD13 (io), 32 P4.6/AD14 (io), 33 P4.7/AD15 (io), 34 P2.3/T2CLK (in), 35 READY (in), 36 P2.4/T2RST (in), 37 BHE (out), 38 ~{WR} (out), 39 P2.5/PWM (out), 40 P2.7 (io), 41 VBB (in), 42 VSS (power) hidden to VSS, 43 HSO.3 (out), 44 HSO.2 (out), 45 P2.6 (io), 46 P1.7 (io), 47 P1.6 (io), 48 P1.5 (io), 49 HSO.1 (out), 50 HSO.0 (out), 51 HSI.3/HSO.5 (io), 52 HSI.2/HSO.4 (io), 53 HSI.1 (in), 54 HSI.0 (in), 55 P1.4 (io), 56 P1.3 (io), 57 P1.2 (io), 58 P1.1 (io), 59 P1.0 (io), 60 P2.0/TXD (out), 61 P2.1/RXD (in), 62 RESET (in), 63 P2.2/EXINT (in), 64 VPD (in), 65 VREF (in), 66 ANGND (in), 67 P0.4/ACH4 (in), 68 P0.5/ACH5 (in)

## 8752BH
designator U?
pins: 1 P1.0 (io), 2 P1.1 (io), 3 P1.2 (io), 4 P1.3 (io), 5 P1.4 (io), 6 P1.5 (io), 7 P1.6 (io), 8 P1.7 (io), 9 RESET (in), 10 RXD (io), 11 TXD (io), 12 INT0 (io), 13 INT1 (io), 14 T0 (io), 15 T1 (io), 16 ~{WR} (io), 17 ~{RD} (io), 18 X2 (in), 19 X1 (in), 20 VSS (power) hidden to VSS, 21 P2.0 (io), 22 P2.1 (io), 23 P2.2 (io), 24 P2.3 (io), 25 P2.4 (io), 26 P2.5 (io), 27 P2.6 (io), 28 P2.7 (io), 29 PSEN (out), 30 ALE/~{P} (out), 31 ~{EA}/VP (in), 32 P0.7 (io), 33 P0.6 (io), 34 P0.5 (io), 35 P0.4 (io), 36 P0.3 (io), 37 P0.2 (io), 38 P0.1 (io), 39 P0.0 (io), 40 VCC (power) hidden to VCC

## 8755A
designator U?
footprint DIP-40
pins: 1 PRG~{CE1} (in), 2 CE2 (in), 3 CLK (in), 4 RESET (in), 5 Vdd (in), 6 READY (hiz), 7 IO/~{M} (in), 8 IOR (in), 9 RD (in), 10 IOW (in), 11 ALE (in), 12 AD0 (hiz), 13 AD1 (hiz), 14 AD2 (hiz), 15 AD3 (hiz), 16 AD4 (hiz), 17 AD5 (hiz), 18 AD6 (hiz), 19 AD7 (hiz), 20 GND (power) hidden to GND, 21 A8 (in), 22 A9 (in), 23 A10 (in), 24 PA0 (io), 25 PA1 (io), 26 PA2 (io), 27 PA3 (io), 28 PA4 (io), 29 PA5 (io), 30 PA6 (io), 31 PA7 (io), 32 PB0 (io), 33 PB1 (io), 34 PB2 (io), 35 PB3 (io), 36 PB4 (io), 37 PB5 (io), 38 PB6 (io), 39 PB7 (io), 40 VCC (power) hidden to VCC

## P8748H
designator U?
footprint DIP-40
pins: 1 T0 (io), 2 Xtal-1, 3 Xtal-2, 4 RESET (in), 5 SS (in), 6 INT (in), 7 EA (in), 8 RD (out), 9 PSEN (out), 10 WR (out), 11 ALE (out), 12 DB0 (hiz), 13 DB1 (hiz), 14 DB2 (hiz), 15 DB3 (hiz), 16 DB4 (hiz), 17 DB5 (hiz), 18 DB6 (hiz), 19 DB7 (hiz), 20 GND (power) hidden to GND, 21 P20 (io), 22 P21 (io), 23 P22 (io), 24 P23 (io), 25 PROG (out), 26 Vdd (in), 27 P10 (io), 28 P11 (io), 29 P12 (io), 30 P13 (io), 31 P14 (io), 32 P15 (io), 33 P16 (io), 34 P17 (io), 35 P24 (io), 36 P25 (io), 37 P26 (io), 38 P27 (io), 39 T1 (in), 40 VCC (power) hidden to VCC


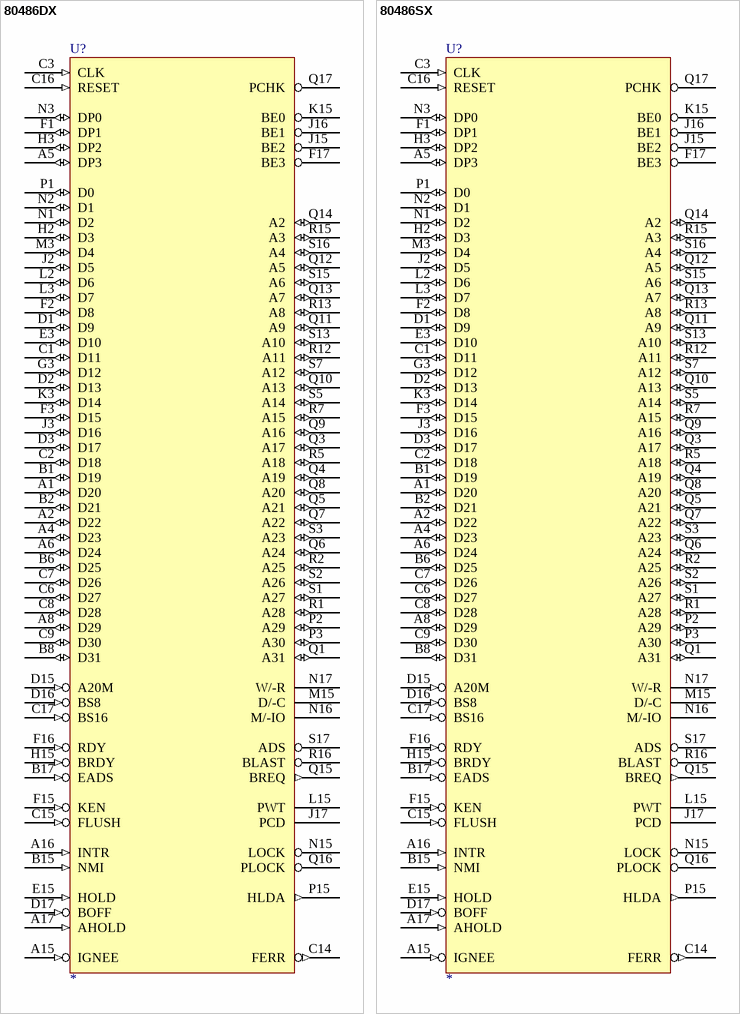
[diagram p6: symbols 80486DX to 80486SX]

## 80486DX
designator U?
pins: A1 D20 (io), A2 D22 (io), A4 D23 (io), A5 DP3 (io), A6 D24 (io), A7 GND (power) hidden to GND, A8 D29 (io), A9 GND (power) hidden to GND, A11 GND (power) hidden to GND, A15 IGNEE (in), A16 INTR (in), A17 AHOLD (in), B1 D19 (io), B2 D21 (io), B3 GND (power) hidden to GND, B4 GND (power) hidden to GND, B5 GND (power) hidden to GND, B6 D25 (io), B7 VCC (power) hidden to VCC, B8 D31 (io), B9 VCC (power) hidden to VCC, B11 VCC (power) hidden to VCC, B15 NMI (in), B17 EADS (in), C1 D11 (io), C2 D18 (io), C3 CLK (in), C4 VCC (power) hidden to VCC, C5 VCC (power) hidden to VCC, C6 D27 (io), C7 D26 (io), C8 D28 (io), C9 D30 (io), C14 FERR (out), C15 FLUSH (in), C16 RESET (in), C17 BS16 (in), D1 D9 (io), D2 D13 (io), D3 D17 (io), D15 A20M (in), D16 BS8 (in), D17 BOFF (in), E1 GND (power) hidden to GND, E2 VCC (power) hidden to VCC, E3 D10 (io), E15 HOLD (in), E16 VCC (power) hidden to VCC, E17 GND (power) hidden to GND, F1 DP1 (io), F2 D8 (io), F3 D15 (io), F15 KEN (in), F16 RDY (in), F17 BE3 (hiz), G1 GND (power) hidden to GND, G2 VCC (power) hidden to VCC, G3 D12 (io), G16 VCC (power) hidden to VCC, G17 GND (power) hidden to GND, H1 GND (power) hidden to GND, H2 D3 (io), H3 DP2 (io), H15 BRDY (in), H16 VCC (power) hidden to VCC, H17 GND (power) hidden to GND, J1 VCC (power) hidden to VCC, J2 D5 (io), J3 D16 (io), J15 BE2 (hiz), J16 BE1 (hiz), J17 PCD (hiz), K1 GND (power) hidden to GND, K2 VCC (power) hidden to VCC, K3 D14 (io), K15 BE0 (hiz), K16 VCC (power) hidden to VCC, K17 GND (power) hidden to GND, L1 GND (power) hidden to GND, L2 D6 (io), L3 D7 (io), L15 PWT (hiz), L16 VCC (power) hidden to VCC, M1 GND (power) hidden to GND, M2 VCC (power) hidden to VCC, M3 D4 (io), M15 D/-C (hiz), M16 VCC (power) hidden to VCC, M17 GND (power) hidden to GND, N1 D2 (io), N2 D1 (io), N3 DP0 (io), N15 LOCK (hiz), N16 M/-IO (hiz), N17 W/-R (hiz), P1 D0 (io), P2 A29 (io), P3 A30 (io), P15 HLDA (out), P16 VCC (power) hidden to VCC, P17 GND (power) hidden to GND, Q1 A31 (io), Q2 GND (power) hidden to GND, Q3 A17 (io), Q4 A19 (io), Q5 A21 (io), Q6 A24 (io), Q7 A22 (io), Q8 A20 (io), Q9 A16 (io), Q10 A13 (io), Q11 A9 (io), Q12 A5 (io), Q13 A7 (io), Q14 A2 (io), Q15 BREQ (out), Q16 PLOCK (hiz), Q17 PCHK (hiz), R1 A28 (io), R2 A25 (io), R3 VCC (power) hidden to VCC, R4 GND (power) hidden to GND, R5 A18 (io), R6 VCC (power) hidden to VCC, R7 A15 (io), R8 VCC (power) hidden to VCC, R9 VCC (power) hidden to VCC, R10 VCC (power) hidden to VCC, R11 VCC (power) hidden to VCC, R12 A11 (io), R13 A8 (io), R14 VCC (power) hidden to VCC, R15 A3 (io), R16 BLAST (hiz), S1 A27 (io), S2 A26 (io), S3 A23 (io), S5 A14 (io), S6 GND (power) hidden to GND, S7 A12 (io), S8 GND (power) hidden to GND, S9 GND (power) hidden to GND, S10 GND (power) hidden to GND, S11 GND (power) hidden to GND, S12 GND (power) hidden to GND, S13 A10 (io), S14 GND (power) hidden to GND, S15 A6 (io), S16 A4 (io), S17 ADS (hiz)

## 80486SX
designator U?
pins: A1 D20 (io), A2 D22 (io), A4 D23 (io), A5 DP3 (io), A6 D24 (io), A7 GND (power) hidden to GND, A8 D29 (io), A9 GND (power) hidden to GND, A11 GND (power) hidden to GND, A15 IGNEE (in), A16 INTR (in), A17 AHOLD (in), B1 D19 (io), B2 D21 (io), B3 GND (power) hidden to GND, B4 GND (power) hidden to GND, B5 GND (power) hidden to GND, B6 D25 (io), B7 VCC (power) hidden to VCC, B8 D31 (io), B9 VCC (power) hidden to VCC, B11 VCC (power) hidden to VCC, B15 NMI (in), B17 EADS (in), C1 D11 (io), C2 D18 (io), C3 CLK (in), C4 VCC (power) hidden to VCC, C5 VCC (power) hidden to VCC, C6 D27 (io), C7 D26 (io), C8 D28 (io), C9 D30 (io), C14 FERR (out), C15 FLUSH (in), C16 RESET (in), C17 BS16 (in), D1 D9 (io), D2 D13 (io), D3 D17 (io), D15 A20M (in), D16 BS8 (in), D17 BOFF (in), E1 GND (power) hidden to GND, E2 VCC (power) hidden to VCC, E3 D10 (io), E15 HOLD (in), E16 VCC (power) hidden to VCC, E17 GND (power) hidden to GND, F1 DP1 (io), F2 D8 (io), F3 D15 (io), F15 KEN (in), F16 RDY (in), F17 BE3 (hiz), G1 GND (power) hidden to GND, G2 VCC (power) hidden to VCC, G3 D12 (io), G16 VCC (power) hidden to VCC, G17 GND (power) hidden to GND, H1 GND (power) hidden to GND, H2 D3 (io), H3 DP2 (io), H15 BRDY (in), H16 VCC (power) hidden to VCC, H17 GND (power) hidden to GND, J1 VCC (power) hidden to VCC, J2 D5 (io), J3 D16 (io), J15 BE2 (hiz), J16 BE1 (hiz), J17 PCD (hiz), K1 GND (power) hidden to GND, K2 VCC (power) hidden to VCC, K3 D14 (io), K15 BE0 (hiz), K16 VCC (power) hidden to VCC, K17 GND (power) hidden to GND, L1 GND (power) hidden to GND, L2 D6 (io), L3 D7 (io), L15 PWT (hiz), L16 VCC (power) hidden to VCC, M1 GND (power) hidden to GND, M2 VCC (power) hidden to VCC, M3 D4 (io), M15 D/-C (hiz), M16 VCC (power) hidden to VCC, M17 GND (power) hidden to GND, N1 D2 (io), N2 D1 (io), N3 DP0 (io), N15 LOCK (hiz), N16 M/-IO (hiz), N17 W/-R (hiz), P1 D0 (io), P2 A29 (io), P3 A30 (io), P15 HLDA (out), P16 VCC (power) hidden to VCC, P17 GND (power) hidden to GND, Q1 A31 (io), Q2 GND (power) hidden to GND, Q3 A17 (io), Q4 A19 (io), Q5 A21 (io), Q6 A24 (io), Q7 A22 (io), Q8 A20 (io), Q9 A16 (io), Q10 A13 (io), Q11 A9 (io), Q12 A5 (io), Q13 A7 (io), Q14 A2 (io), Q15 BREQ (out), Q16 PLOCK (hiz), Q17 PCHK (hiz), R1 A28 (io), R2 A25 (io), R3 VCC (power) hidden to VCC, R4 GND (power) hidden to GND, R5 A18 (io), R6 VCC (power) hidden to VCC, R7 A15 (io), R8 VCC (power) hidden to VCC, R9 VCC (power) hidden to VCC, R10 VCC (power) hidden to VCC, R11 VCC (power) hidden to VCC, R12 A11 (io), R13 A8 (io), R14 VCC (power) hidden to VCC, R15 A3 (io), R16 BLAST (hiz), S1 A27 (io), S2 A26 (io), S3 A23 (io), S5 A14 (io), S6 GND (power) hidden to GND, S7 A12 (io), S8 GND (power) hidden to GND, S9 GND (power) hidden to GND, S10 GND (power) hidden to GND, S11 GND (power) hidden to GND, S12 GND (power) hidden to GND, S13 A10 (io), S14 GND (power) hidden to GND, S15 A6 (io), S16 A4 (io), S17 ADS (hiz)


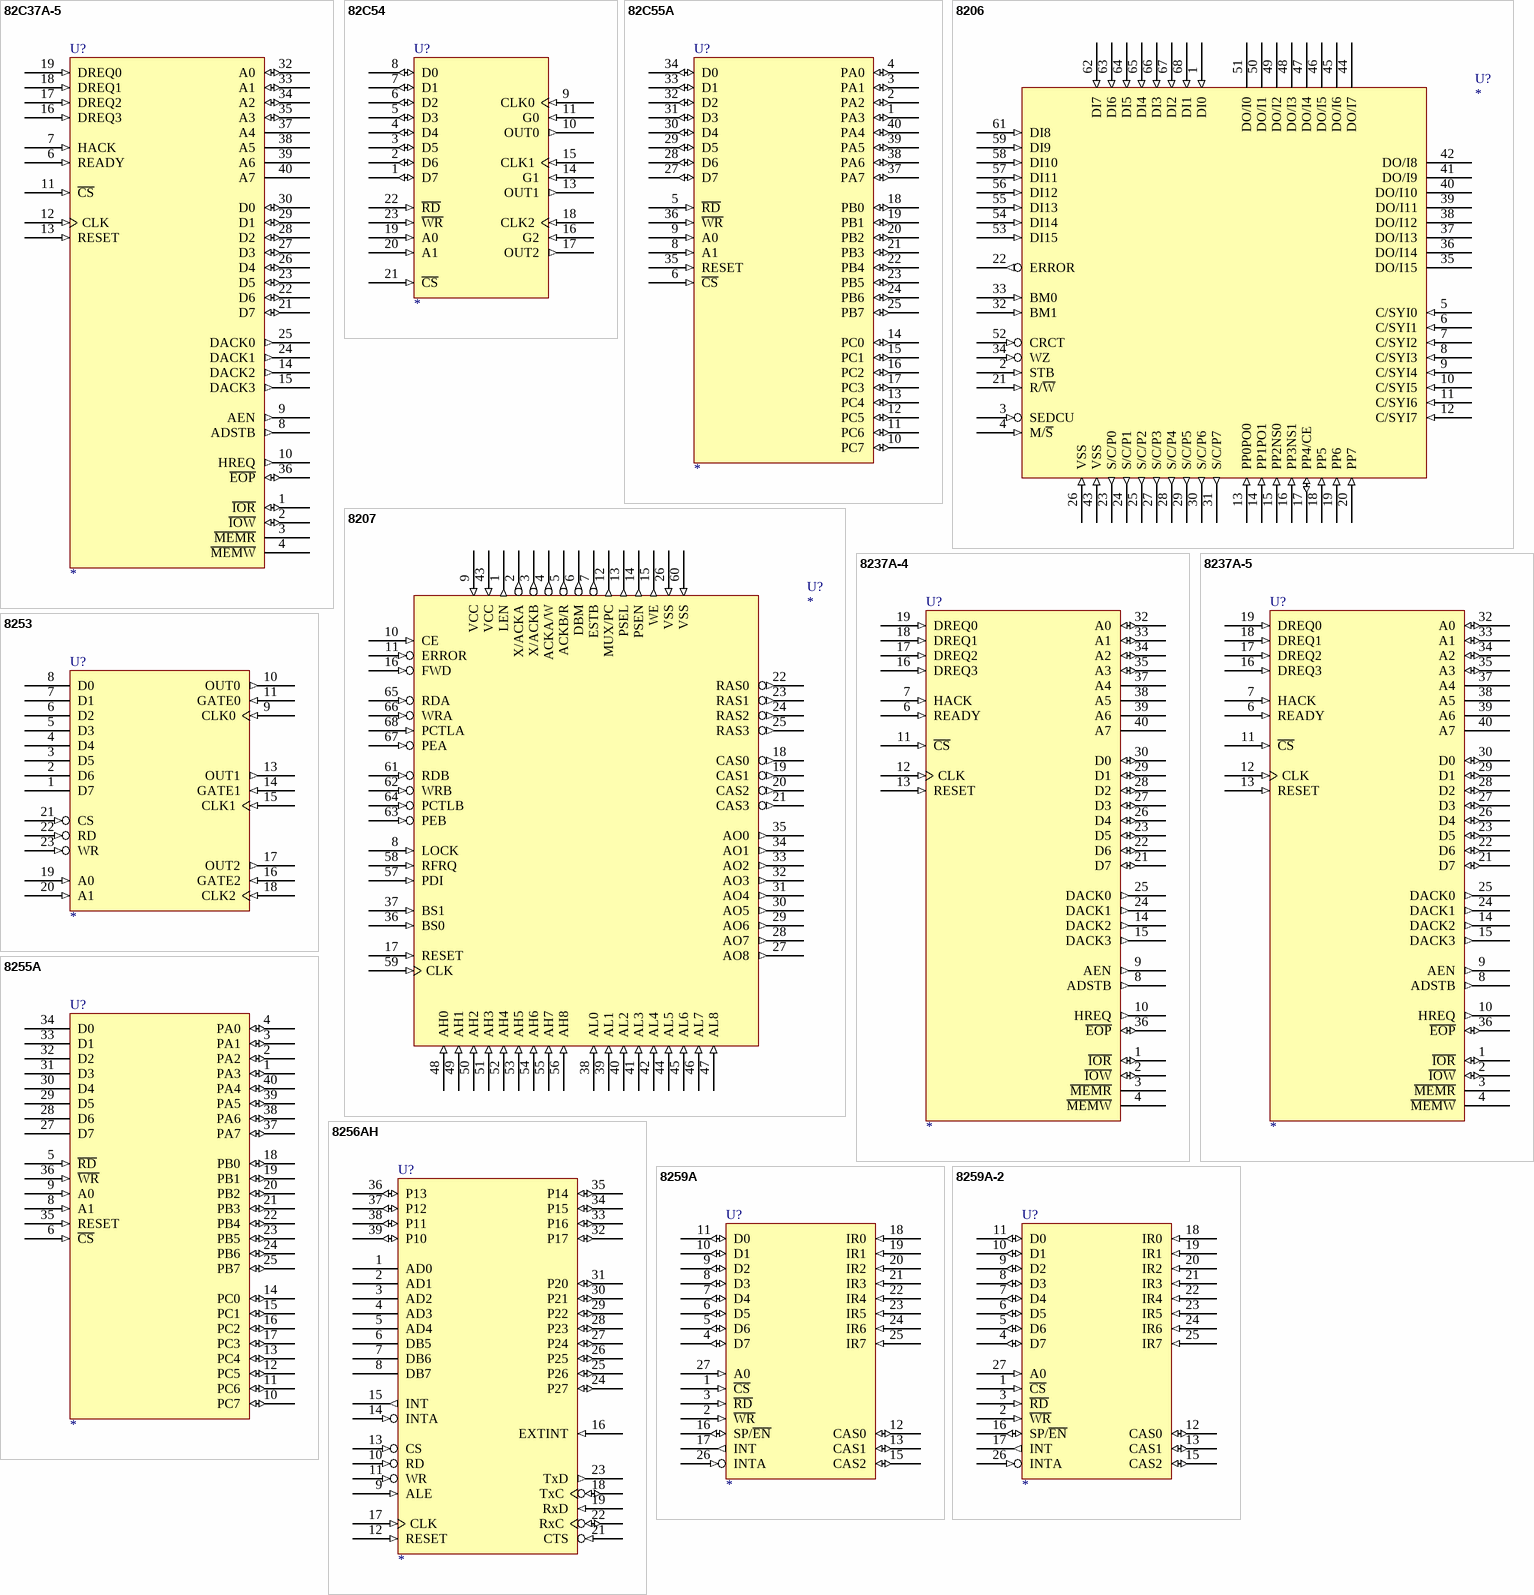
[diagram p7: symbols 82C37A-5 to 8259A-2]

## 82C37A-5
designator U?
pins: 1 ~{IOR} (io), 2 ~{IOW} (io), 3 ~{MEMR} (hiz), 4 ~{MEMW} (hiz), 5 VCC (power) hidden to VCC, 6 READY (in), 7 HACK (in), 8 ADSTB (out), 9 AEN (out), 10 HREQ (out), 11 ~{CS} (in), 12 CLK (in), 13 RESET (in), 14 DACK2 (out), 15 DACK3 (out), 16 DREQ3 (in), 17 DREQ2 (in), 18 DREQ1 (in), 19 DREQ0 (in), 20 VSS (power) hidden to VSS, 21 D7 (io), 22 D6 (io), 23 D5 (io), 24 DACK1 (out), 25 DACK0 (out), 26 D4 (io), 27 D3 (io), 28 D2 (io), 29 D1 (io), 30 D0 (io), 31 VCC (power) hidden to VCC, 32 A0 (io), 33 A1 (io), 34 A2 (io), 35 A3 (io), 36 ~{EOP} (io), 37 A4 (hiz), 38 A5 (hiz), 39 A6 (hiz), 40 A7 (hiz)

## 82C54
designator U?
pins: 1 D7 (io), 2 D6 (io), 3 D5 (io), 4 D4 (io), 5 D3 (io), 6 D2 (io), 7 D1 (io), 8 D0 (io), 9 CLK0 (in), 10 OUT0 (out), 11 G0 (in), 12 GND (power) hidden to GND, 13 OUT1 (out), 14 G1 (in), 15 CLK1 (in), 16 G2 (in), 17 OUT2 (out), 18 CLK2 (in), 19 A0 (in), 20 A1 (in), 21 ~{CS} (in), 22 ~{RD} (in), 23 ~{WR} (in), 24 VCC (power) hidden to VCC

## 82C55A
designator U?
pins: 1 PA3 (io), 2 PA2 (io), 3 PA1 (io), 4 PA0 (io), 5 ~{RD} (in), 6 ~{CS} (in), 7 GND (power) hidden to GND, 8 A1 (in), 9 A0 (in), 10 PC7 (io), 11 PC6 (io), 12 PC5 (io), 13 PC4 (io), 14 PC0 (io), 15 PC1 (io), 16 PC2 (io), 17 PC3 (io), 18 PB0 (io), 19 PB1 (io), 20 PB2 (io), 21 PB3 (io), 22 PB4 (io), 23 PB5 (io), 24 PB6 (io), 25 PB7 (io), 26 VCC (power) hidden to VCC, 27 D7 (io), 28 D6 (io), 29 D5 (io), 30 D4 (io), 31 D3 (io), 32 D2 (io), 33 D1 (io), 34 D0 (io), 35 RESET (in), 36 ~{WR} (in), 37 PA7 (io), 38 PA6 (io), 39 PA5 (io), 40 PA4 (io)

## 8206
designator U?
footprint JEDECA-68
pins: 1 DI0 (in), 2 STB (in), 3 SEDCU (in), 4 M/~{S} (in), 5 C/SYI0 (in), 6 C/SYI1 (in), 7 C/SYI2 (in), 8 C/SYI3 (in), 9 C/SYI4 (in), 10 C/SYI5 (in), 11 C/SYI6 (in), 12 C/SYI7 (in), 13 PP0PO0 (in), 14 PP1PO1 (in), 15 PP2NS0 (in), 16 PP3NS1 (in), 17 PP4/CE (io), 18 PP5 (in), 19 PP6 (in), 20 PP7 (in), 21 R/~{W} (in), 22 ERROR (out), 23 S/C/P0 (out), 24 S/C/P1 (out), 25 S/C/P2 (out), 26 VSS (in), 27 S/C/P3 (out), 28 S/C/P4 (out), 29 S/C/P5 (out), 30 S/C/P6 (out), 31 S/C/P7 (out), 32 BM1 (in), 33 BM0 (in), 34 WZ (in), 35 DO/I15 (hiz), 36 DO/I14 (hiz), 37 DO/I13 (hiz), 38 DO/I12 (hiz), 39 DO/I11 (hiz), 40 DO/I10 (hiz), 41 DO/I9 (hiz), 42 DO/I8 (hiz), 43 VSS (in), 44 DO/I7 (hiz), 45 DO/I6 (hiz), 46 DO/I5 (hiz), 47 DO/I4 (hiz), 48 DO/I3 (hiz), 49 DO/I2 (hiz), 50 DO/I1 (hiz), 51 DO/I0 (hiz), 52 CRCT (in), 53 DI15 (in), 54 DI14 (in), 55 DI13 (in), 56 DI12 (in), 57 DI11 (in), 58 DI10 (in), 59 DI9 (in), 60 VCC (power) hidden to VCC, 61 DI8 (in), 62 DI7 (in), 63 DI6 (in), 64 DI5 (in), 65 DI4 (in), 66 DI3 (in), 67 DI2 (in), 68 DI1 (in)

## 8207
designator U?
footprint JEDECA-68
pins: 1 LEN (out), 2 X/ACKA (out), 3 X/ACKB (out), 4 ACKA/W (out), 5 ACKB/R (out), 6 DBM (out), 7 ESTB (out), 8 LOCK (in), 9 VCC (in), 10 CE (in), 11 ERROR (in), 12 MUX/PC (out), 13 PSEL (out), 14 PSEN (out), 15 WE (out), 16 FWD (in), 17 RESET (in), 18 CAS0 (out), 19 CAS1 (out), 20 CAS2 (out), 21 CAS3 (out), 22 RAS0 (out), 23 RAS1 (out), 24 RAS2 (out), 25 RAS3 (out), 26 VSS (in), 27 AO8 (out), 28 AO7 (out), 29 AO6 (out), 30 AO5 (out), 31 AO4 (out), 32 AO3 (out), 33 AO2 (out), 34 AO1 (out), 35 AO0 (out), 36 BS0 (in), 37 BS1 (in), 38 AL0 (in), 39 AL1 (in), 40 AL2 (in), 41 AL3 (in), 42 AL4 (in), 43 VCC (in), 44 AL5 (in), 45 AL6 (in), 46 AL7 (in), 47 AL8 (in), 48 AH0 (in), 49 AH1 (in), 50 AH2 (in), 51 AH3 (in), 52 AH4 (in), 53 AH5 (in), 54 AH6 (in), 55 AH7 (in), 56 AH8 (in), 57 PDI (in), 58 RFRQ (in), 59 CLK (in), 60 VSS (in), 61 RDB (in), 62 WRB (in), 63 PEB (in), 64 PCTLB (in), 65 RDA (in), 66 WRA (in), 67 PEA (in), 68 PCTLA (in)

## 8237A-4
designator U?
pins: 1 ~{IOR} (io), 2 ~{IOW} (io), 3 ~{MEMR} (hiz), 4 ~{MEMW} (hiz), 5 VCC (power) hidden to VCC, 6 READY (in), 7 HACK (in), 8 ADSTB (out), 9 AEN (out), 10 HREQ (out), 11 ~{CS} (in), 12 CLK (in), 13 RESET (in), 14 DACK2 (out), 15 DACK3 (out), 16 DREQ3 (in), 17 DREQ2 (in), 18 DREQ1 (in), 19 DREQ0 (in), 20 VSS (power) hidden to VSS, 21 D7 (io), 22 D6 (io), 23 D5 (io), 24 DACK1 (out), 25 DACK0 (out), 26 D4 (io), 27 D3 (io), 28 D2 (io), 29 D1 (io), 30 D0 (io), 31 VCC (power) hidden to VCC, 32 A0 (io), 33 A1 (io), 34 A2 (io), 35 A3 (io), 36 ~{EOP} (io), 37 A4 (hiz), 38 A5 (hiz), 39 A6 (hiz), 40 A7 (hiz)

## 8237A-5
designator U?
pins: 1 ~{IOR} (io), 2 ~{IOW} (io), 3 ~{MEMR} (hiz), 4 ~{MEMW} (hiz), 5 VCC (power) hidden to VCC, 6 READY (in), 7 HACK (in), 8 ADSTB (out), 9 AEN (out), 10 HREQ (out), 11 ~{CS} (in), 12 CLK (in), 13 RESET (in), 14 DACK2 (out), 15 DACK3 (out), 16 DREQ3 (in), 17 DREQ2 (in), 18 DREQ1 (in), 19 DREQ0 (in), 20 VSS (power) hidden to VSS, 21 D7 (io), 22 D6 (io), 23 D5 (io), 24 DACK1 (out), 25 DACK0 (out), 26 D4 (io), 27 D3 (io), 28 D2 (io), 29 D1 (io), 30 D0 (io), 31 VCC (power) hidden to VCC, 32 A0 (io), 33 A1 (io), 34 A2 (io), 35 A3 (io), 36 ~{EOP} (io), 37 A4 (hiz), 38 A5 (hiz), 39 A6 (hiz), 40 A7 (hiz)

## 8253
designator U?
footprint DIP-24
pins: 1 D7 (hiz), 2 D6 (hiz), 3 D5 (hiz), 4 D4 (hiz), 5 D3 (hiz), 6 D2 (hiz), 7 D1 (hiz), 8 D0 (hiz), 9 CLK0 (in), 10 OUT0 (out), 11 GATE0 (in), 12 GND (power) hidden to GND, 13 OUT1 (out), 14 GATE1 (in), 15 CLK1 (in), 16 GATE2 (in), 17 OUT2 (out), 18 CLK2 (in), 19 A0 (in), 20 A1 (in), 21 CS (in), 22 RD (in), 23 WR (in), 24 VCC (power) hidden to VCC

## 8255A
designator U?
footprint DIP-40
pins: 1 PA3 (io), 2 PA2 (io), 3 PA1 (io), 4 PA0 (io), 5 ~{RD} (in), 6 ~{CS} (in), 7 GND (power) hidden to GND, 8 A1 (in), 9 A0 (in), 10 PC7 (io), 11 PC6 (io), 12 PC5 (io), 13 PC4 (io), 14 PC0 (io), 15 PC1 (io), 16 PC2 (io), 17 PC3 (io), 18 PB0 (io), 19 PB1 (io), 20 PB2 (io), 21 PB3 (io), 22 PB4 (io), 23 PB5 (io), 24 PB6 (io), 25 PB7 (io), 26 VCC (power) hidden to VCC, 27 D7 (hiz), 28 D6 (hiz), 29 D5 (hiz), 30 D4 (hiz), 31 D3 (hiz), 32 D2 (hiz), 33 D1 (hiz), 34 D0 (hiz), 35 RESET (in), 36 ~{WR} (in), 37 PA7 (io), 38 PA6 (io), 39 PA5 (io), 40 PA4 (io)

## 8256AH
designator U?
footprint DIP-40
pins: 1 AD0 (hiz), 2 AD1 (hiz), 3 AD2 (hiz), 4 AD3 (hiz), 5 AD4 (hiz), 6 DB5 (hiz), 7 DB6 (hiz), 8 DB7 (hiz), 9 ALE (in), 10 RD (in), 11 WR (in), 12 RESET (in), 13 CS (in), 14 INTA (in), 15 INT (out), 16 EXTINT (in), 17 CLK (in), 18 TxC (io), 19 RxD (in), 20 GND (power) hidden to GND, 21 CTS (in), 22 RxC (io), 23 TxD (out), 24 P27 (io), 25 P26 (io), 26 P25 (io), 27 P24 (io), 28 P23 (io), 29 P22 (io), 30 P21 (io), 31 P20 (io), 32 P17 (io), 33 P16 (io), 34 P15 (io), 35 P14 (io), 36 P13 (io), 37 P12 (io), 38 P11 (io), 39 P10 (io), 40 VCC (power) hidden to VCC

## 8259A
designator U?
pins: 1 ~{CS} (in), 2 ~{WR} (in), 3 ~{RD} (in), 4 D7 (io), 5 D6 (io), 6 D5 (io), 7 D4 (io), 8 D3 (io), 9 D2 (io), 10 D1 (io), 11 D0 (io), 12 CAS0 (io), 13 CAS1 (io), 14 GND (power) hidden to GND, 15 CAS2 (io), 16 SP/~{EN} (io), 17 INT (out), 18 IR0 (in), 19 IR1 (in), 20 IR2 (in), 21 IR3 (in), 22 IR4 (in), 23 IR5 (in), 24 IR6 (in), 25 IR7 (in), 26 INTA (in), 27 A0 (in), 28 VCC (power) hidden to VCC

## 8259A-2
designator U?
pins: 1 ~{CS} (in), 2 ~{WR} (in), 3 ~{RD} (in), 4 D7 (io), 5 D6 (io), 6 D5 (io), 7 D4 (io), 8 D3 (io), 9 D2 (io), 10 D1 (io), 11 D0 (io), 12 CAS0 (io), 13 CAS1 (io), 14 GND (power) hidden to GND, 15 CAS2 (io), 16 SP/~{EN} (io), 17 INT (out), 18 IR0 (in), 19 IR1 (in), 20 IR2 (in), 21 IR3 (in), 22 IR4 (in), 23 IR5 (in), 24 IR6 (in), 25 IR7 (in), 26 INTA (in), 27 A0 (in), 28 VCC (power) hidden to VCC

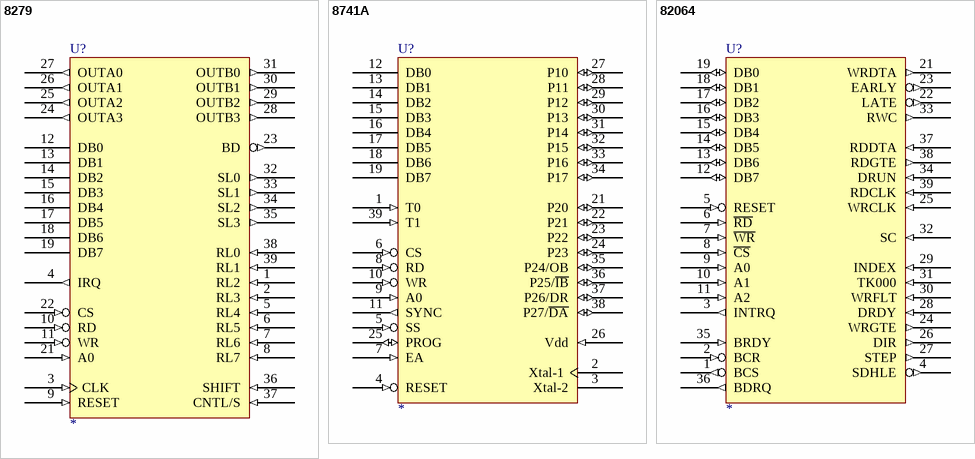
[diagram p8: symbols 8279 to 82064]

## 8279
designator U?
footprint DIP-40
pins: 1 RL2 (in), 2 RL3 (in), 3 CLK (in), 4 IRQ (out), 5 RL4 (in), 6 RL5 (in), 7 RL6 (in), 8 RL7 (in), 9 RESET (in), 10 RD (in), 11 WR (in), 12 DB0 (hiz), 13 DB1 (hiz), 14 DB2 (hiz), 15 DB3 (hiz), 16 DB4 (hiz), 17 DB5 (hiz), 18 DB6 (hiz), 19 DB7 (hiz), 20 GND (power) hidden to GND, 21 A0 (in), 22 CS (in), 23 BD (out), 24 OUTA3 (out), 25 OUTA2 (out), 26 OUTA1 (out), 27 OUTA0 (out), 28 OUTB3 (out), 29 OUTB2 (out), 30 OUTB1 (out), 31 OUTB0 (out), 32 SL0 (out), 33 SL1 (out), 34 SL2 (out), 35 SL3 (out), 36 SHIFT (in), 37 CNTL/S (in), 38 RL0 (in), 39 RL1 (in), 40 VCC (power) hidden to VCC

## 8741A
designator U?
footprint DIP-40
pins: 1 T0 (in), 2 Xtal-1, 3 Xtal-2, 4 RESET (in), 5 SS (in), 6 CS (in), 7 EA (in), 8 RD (in), 9 A0 (in), 10 WR (in), 11 SYNC (out), 12 DB0 (hiz), 13 DB1 (hiz), 14 DB2 (hiz), 15 DB3 (hiz), 16 DB4 (hiz), 17 DB5 (hiz), 18 DB6 (hiz), 19 DB7 (hiz), 20 GND (power) hidden to GND, 21 P20 (io), 22 P21 (io), 23 P22 (io), 24 P23 (io), 25 PROG (io), 26 Vdd (in), 27 P10 (io), 28 P11 (io), 29 P12 (io), 30 P13 (io), 31 P14 (io), 32 P15 (io), 33 P16 (io), 34 P17 (io), 35 P24/OB (io), 36 P25/~{IB} (io), 37 P26/DR (io), 38 P27/~{DA} (io), 39 T1 (in), 40 VCC (power) hidden to VCC

## 82064
designator U?
pins: 1 BCS (out), 2 BCR (in), 3 INTRQ (out), 4 SDHLE (out), 5 RESET (in), 6 ~{RD} (in), 7 ~{WR} (in), 8 ~{CS} (in), 9 A0 (in), 10 A1 (in), 11 A2 (in), 12 DB7 (io), 13 DB6 (io), 14 DB5 (io), 15 DB4 (io), 16 DB3 (io), 17 DB2 (io), 18 DB1 (io), 19 DB0 (io), 20 GND (power) hidden to GND, 21 WRDTA (out), 22 LATE (out), 23 EARLY (out), 24 WRGTE (out), 25 WRCLK (in), 26 DIR (out), 27 STEP (out), 28 DRDY (in), 29 INDEX (in), 30 WRFLT (in), 31 TK000 (in), 32 SC (in), 33 RWC (out), 34 DRUN (in), 35 BRDY (in), 36 BDRQ (out), 37 RDDTA (in), 38 RDGTE (out), 39 RDCLK (in), 40 VCC (power) hidden to VCC